# Altium schematic symbol library LABLIB.SchLib: 155 symbols (part 1 of 2)
Pins are listed as number, name and electrical type; pins without a type are passive.

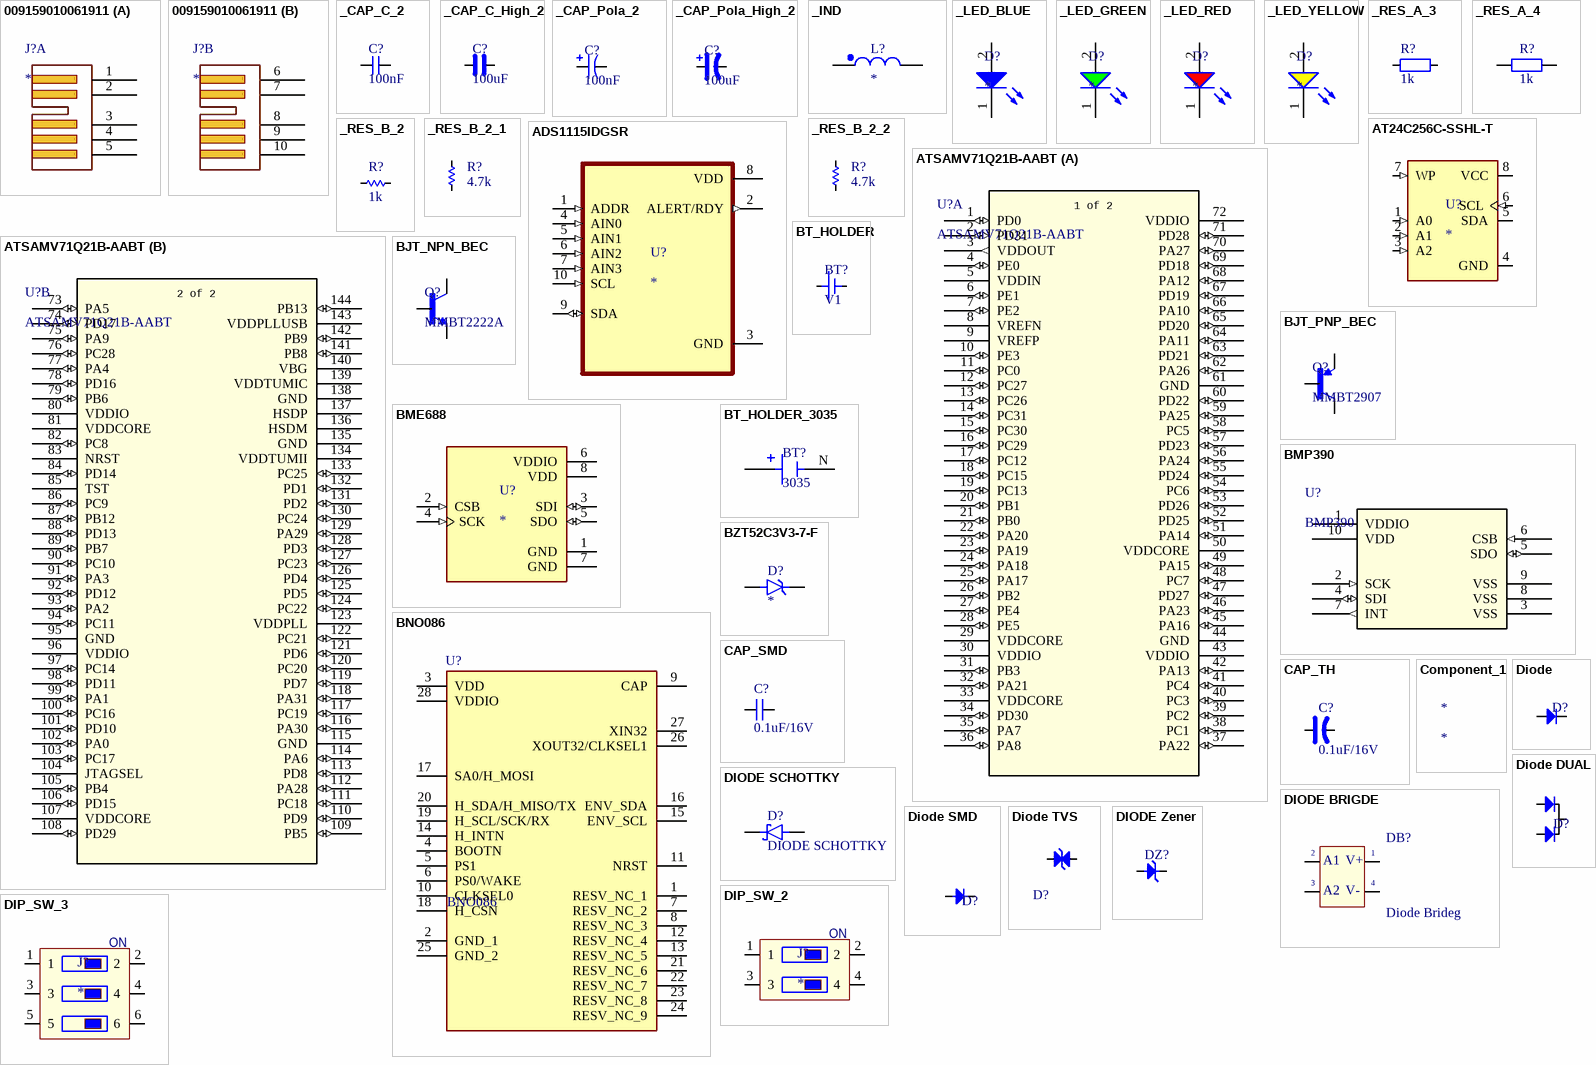
[diagram p0: symbols 009159010061911 to DIP_SW_3]

## 009159010061911
designator J?
pads for STLink V3 minie
footprint 009159010061911
part A pins: 1, 2, 3, 4, 5
part B pins: 6, 7, 8, 9, 10

## _CAP_C_2
designator C?, comment 100nF
CAP
footprint CAP_C_1005X60
footprint CAP_C_1608X80 (Chip Capacitor, 2-Leads, Body 1.60x0.80mm, IPC Medium Density)
footprint CAP_C_2012X110 (Chip Capacitor, 2-Leads, Body 2.00x1.25mm, IPC High Density)
footprint CAP_C_3216X140 (Chip Capacitor, 2-Leads, Body 3.20x1.60mm, IPC High Density)
footprint CAP_C_3225X80 (Chip Capacitor, 2-Leads, Body 3.20x2.50mm, IPC Medium Density)
pins: 1, 2

## _CAP_C_High_2
designator C?, comment 100uF
CAP High Value
footprint CAP_C_1005X60
footprint CAP_C_1608X80 (Chip Capacitor, 2-Leads, Body 1.60x0.80mm, IPC Medium Density)
footprint CAP_C_2012X110 (Chip Capacitor, 2-Leads, Body 2.00x1.25mm, IPC High Density)
footprint CAP_C_3216X140 (Chip Capacitor, 2-Leads, Body 3.20x1.60mm, IPC High Density)
footprint CAP_C_3225X80 (Chip Capacitor, 2-Leads, Body 3.20x2.50mm, IPC Medium Density)
pins: 1, 2

## _CAP_Pola_2
designator C?, comment 100nF
CAP Polarization
footprint CAP_MP_1608X90 (Molded Capacitor, 2-Leads, Body 1.60x0.85mm, IPC Medium Density)
footprint CAP_MP_2012X170 (Molded Capacitor, 2-Leads, Body 2.05x1.40mm, IPC Medium Density)
pins: 1, 2

## _CAP_Pola_High_2
designator C?, comment 100uF
CAP Polarization High Value
footprint CAP_MP_3216X180 (Molded Capacitor, 2-Leads, Body 3.20x1.65mm, IPC Medium Density)
footprint CAP_MP_1608X90 (Molded Capacitor, 2-Leads, Body 1.60x0.85mm, IPC Medium Density)
footprint CAP_MP_2012X170 (Molded Capacitor, 2-Leads, Body 2.05x1.40mm, IPC Medium Density)
footprint CAP_MP_3528X210 (Molded Capacitor, 2-Leads, Body 3.50x2.85mm, IPC Medium Density)
pins: 1, 2

## _IND
designator L?
footprint IND730660x480 (Precision Wire Wound Inductor, 2-Leads, Body 7.30x6.60mm, IPC Medium Density)
footprint IND_C_2012X65 (Chip Inductor, 2-Leads, Body 2.00x1.25mm, IPC High Density)
pins: 1, 2

## _LED_BLUE
designator D?
footprint LED_0603
pins: 1 K, 2 A

## _LED_GREEN
designator D?
footprint LED_0603
pins: 1 K, 2 A

## _LED_RED
designator D?
footprint LED_0603
pins: 1 K, 2 A

## _LED_YELLOW
designator D?
footprint LED_0603
pins: 1 K, 2 A

## _RES_A_3
designator R?, comment 1k
RES
footprint RES_C_1608X60 (Chip Resistor, 2-Leads, Body 1.63x0.83mm, IPC High Density)
footprint RES_C_1005X40
footprint RES_C_2012X65 (Chip Resistor, 2-Leads, Body 2.00x1.25mm, IPC High Density)
footprint RES_C_3216X70 (Chip Resistor, 2-Leads, Body 3.20x1.60mm, IPC Medium Density)
pins: 1, 2

## _RES_A_4
designator R?, comment 1k
RES
footprint RES_C_1608X60 (Chip Resistor, 2-Leads, Body 1.63x0.83mm, IPC High Density)
footprint RES_C_1005X40
footprint RES_C_2012X65 (Chip Resistor, 2-Leads, Body 2.00x1.25mm, IPC High Density)
footprint RES_C_3216X70 (Chip Resistor, 2-Leads, Body 3.20x1.60mm, IPC Medium Density)
pins: 1, 2

## _RES_B_2
designator R?, comment 1k
RES
footprint RES_C_1005X40
footprint RES_C_1608X60 (Chip Resistor, 2-Leads, Body 1.63x0.83mm, IPC High Density)
footprint RES_C_2012X65 (Chip Resistor, 2-Leads, Body 2.00x1.25mm, IPC High Density)
footprint RES_C_3216X70 (Chip Resistor, 2-Leads, Body 3.20x1.60mm, IPC Medium Density)
pins: 1, 2

## _RES_B_2_1
designator R?, comment 4.7k
RES
footprint RES_C_1005X40
footprint RES_C_1608X60 (Chip Resistor, 2-Leads, Body 1.63x0.83mm, IPC High Density)
footprint RES_C_2012X65 (Chip Resistor, 2-Leads, Body 2.00x1.25mm, IPC High Density)
footprint RES_C_3216X70 (Chip Resistor, 2-Leads, Body 3.20x1.60mm, IPC Medium Density)
pins: 1, 2

## _RES_B_2_2
designator R?, comment 4.7k
RES
footprint RES_C_1005X40
footprint RES_C_1608X60 (Chip Resistor, 2-Leads, Body 1.63x0.83mm, IPC High Density)
footprint RES_C_2012X65 (Chip Resistor, 2-Leads, Body 2.00x1.25mm, IPC High Density)
footprint RES_C_3216X70 (Chip Resistor, 2-Leads, Body 3.20x1.60mm, IPC Medium Density)
footprint RES_C_6331X65_N
pins: 1, 2

## ADS1115IDGSR
designator U?
16-bit, 860-SPS, 4-channel, delta-sigma ADC with PGA, oscillator, VREF, comparator and I2C
footprint SOP50P490X110-10N
pins: 1 ADDR (in), 2 ALERT/RDY (out), 3 GND (power), 4 AIN0 (in), 5 AIN1 (in), 6 AIN2 (in), 7 AIN3 (in), 8 VDD (power), 9 SDA (io), 10 SCL (in)

## AT24C256C-SSHL-T
designator U?
AT24C256C Series 256 Kb (32 K x 8) 1.7 V I2C-Compatible Serial EEPROM - SOIC-8
footprint SOIC127P600X175-8N
pins: 1 A0 (in), 2 A1 (in), 3 A2 (in), 4 GND (power), 5 SDA (io), 6 SCL (in), 7 WP (in), 8 VCC (power)

## ATSAMV71Q21B-AABT
designator U?
Description; Manufacturer_Name: Microchip; Copyright: Copyright (C) 2025 Ultra Librarian. All rights reserved.; Manufacturer_Part_Number: ATSAMV71Q21B-AABT; RefDes: RefDes; Type: Type
footprint LQFP144_20x20MC_MCH
part A pins: 1 PD0 (io), 2 PD31 (io), 3 VDDOUT (out), 4 PE0 (io), 5 VDDIN (power), 6 PE1 (io), 7 PE2 (io), 8 VREFN (power), 9 VREFP (power), 10 PE3 (io), 11 PC0 (io), 12 PC27 (io), 13 PC26 (io), 14 PC31 (io), 15 PC30 (io), 16 PC29 (io), 17 PC12 (io), 18 PC15 (io), 19 PC13 (io), 20 PB1 (io), 21 PB0 (io), 22 PA20 (io), 23 PA19 (io), 24 PA18 (io), 25 PA17 (io), 26 PB2 (io), 27 PE4 (io), 28 PE5 (io), 29 VDDCORE (power), 30 VDDIO (power), 31 PB3 (io), 32 PA21 (io), 33 VDDCORE (power), 34 PD30 (io), 35 PA7 (io), 36 PA8 (io), 37 PA22 (io), 38 PC1 (io), 39 PC2 (io), 40 PC3 (io), 41 PC4 (io), 42 PA13 (io), 43 VDDIO (power), 44 GND (power), 45 PA16 (io), 46 PA23 (io), 47 PD27 (io), 48 PC7 (io), 49 PA15 (io), 50 VDDCORE (power), 51 PA14 (io), 52 PD25 (io), 53 PD26 (io), 54 PC6 (io), 55 PD24 (io), 56 PA24 (io), 57 PD23 (io), 58 PC5 (io), 59 PA25 (io), 60 PD22 (io), 61 GND (power), 62 PA26 (io), 63 PD21 (io), 64 PA11 (io), 65 PD20 (io), 66 PA10 (io), 67 PD19 (io), 68 PA12 (io), 69 PD18 (io), 70 PA27 (io), 71 PD28 (io), 72 VDDIO (power)
part B pins: 73 PA5 (io), 74 PD17 (io), 75 PA9 (io), 76 PC28 (io), 77 PA4 (io), 78 PD16 (io), 79 PB6 (io), 80 VDDIO (power), 81 VDDCORE (power), 82 PC8 (io), 83 NRST, 84 PD14 (io), 85 TST, 86 PC9 (io), 87 PB12 (io), 88 PD13 (io), 89 PB7 (io), 90 PC10 (io), 91 PA3 (io), 92 PD12 (io), 93 PA2 (io), 94 PC11 (io), 95 GND (power), 96 VDDIO (power), 97 PC14 (io), 98 PD11 (io), 99 PA1 (io), 100 PC16 (io), 101 PD10 (io), 102 PA0 (io), 103 PC17 (io), 104 JTAGSEL, 105 PB4 (io), 106 PD15 (io), 107 VDDCORE (power), 108 PD29 (io), 109 PB5 (io), 110 PD9 (io), 111 PC18 (io), 112 PA28 (io), 113 PD8 (io), 114 PA6 (io), 115 GND (power), 116 PA30 (io), 117 PC19 (io), 118 PA31 (io), 119 PD7 (io), 120 PC20 (io), 121 PD6 (io), 122 PC21 (io), 123 VDDPLL (power), 124 PC22 (io), 125 PD5 (io), 126 PD4 (io), 127 PC23 (io), 128 PD3 (io), 129 PA29 (io), 130 PC24 (io), 131 PD2 (io), 132 PD1 (io), 133 PC25 (io), 134 VDDTUMII (power), 135 GND (power), 136 HSDM, 137 HSDP, 138 GND (power), 139 VDDTUMIC (power), 140 VBG, 141 PB8 (io), 142 PB9 (io), 143 VDDPLLUSB (power), 144 PB13 (io)
part A text: 1 of 2
part B text: 2 of 2

## BJT_NPN_BEC
designator Q?, comment MMBT2222A
MF: Diotec Semiconductor; SnapEDA_Link: https://www.snapeda.com/parts/MMBT2222A/Diotec/view-part/?ref=snap; Package: SOT-23 Diotec; Value: *; MP: MMBT2222A; Check_prices: https://www.snapeda.com/parts/MMBT2222A/Diotec/view-part/?ref=eda
footprint SOT95P240X120-3N
pins: 1 B, 2 E, 3 C

## BJT_PNP_BEC
designator Q?, comment MMBT2907
MF: Diotec Semiconductor; MP: MMBT2222A; SnapEDA_Link: https://www.snapeda.com/parts/MMBT2222A/Diotec/view-part/?ref=snap; Package: SOT-23 Diotec; Value: *; Check_prices: https://www.snapeda.com/parts/MMBT2222A/Diotec/view-part/?ref=eda
footprint SOT95P240X120-3N
pins: 1 B, 2 E, 3 C

## BME688
designator U?
Gas sensor measuring relative humidity, barometric pressure, ambient temperature and gas (VOC); MP: BME688; Package: None; Price: None; Availability: Unavailable; Value: *
footprint IC_BME688
pins: 1 GND (power), 2 CSB (in), 3 SDI (io), 4 SCK (in), 5 SDO (io), 6 VDDIO (power), 7 GND (power), 8 VDD (power)

## BMP390
designator U?
Description; Manufacturer_Name: Bosch Sensortec; Copyright: Copyright (C) 2025 Ultra Librarian. All rights reserved.; Manufacturer_Part_Number: BMP390; RefDes: RefDes; Type: Type
footprint 10LGA_2X2X0p75_BOS
pins: 1 VDDIO (power), 2 SCK (in), 3 VSS (power), 4 SDI (io), 5 SDO (io), 6 CSB (in), 7 INT (out), 8 VSS (power), 9 VSS (power), 10 VDD (power)

## BNO086
designator U?
Accelerometer, Gyroscope, Magnetometer, Temperature, 9 Axis Sensor IC, SPI Output; Manufacturer_Name: CEVA; Geometry.Height: 1.18mm; Mouser Part Number: 526-BNO086; Mouser Price/Stock: https://www.mouser.co.uk/ProductDetail/CEVA/BNO086?qs=ulEaXIWI0c%2FqTo1scjodAw%3D%3D; Manufacturer_Part_Number: BNO086; Datasheet Link: *
footprint BNO086
pins: 1 RESV_NC_1, 2 GND_1, 3 VDD, 4 BOOTN, 5 PS1, 6 PS0/WAKE, 7 RESV_NC_2, 8 RESV_NC_3, 9 CAP, 10 CLKSEL0, 11 NRST, 12 RESV_NC_4, 13 RESV_NC_5, 14 H_INTN, 15 ENV_SCL, 16 ENV_SDA, 17 SA0/H_MOSI, 18 H_CSN, 19 H_SCL/SCK/RX, 20 H_SDA/H_MISO/TX, 21 RESV_NC_6, 22 RESV_NC_7, 23 RESV_NC_8, 24 RESV_NC_9, 25 GND_2, 26 XOUT32/CLKSEL1, 27 XIN32, 28 VDDIO

## BT_HOLDER
designator BT?, comment V1
MF: Keystone Electronics; MP: 3035; SnapEDA_Link: https://www.snapeda.com/parts/3035/Keystone/view-part/?ref=snap; Package: None; Value: *; Check_prices: https://www.snapeda.com/parts/3035/Keystone/view-part/?ref=eda
footprint BAT_3035
pins: N NEG, P2 POS

## BT_HOLDER_3035
designator BT?, comment 3035
Battery Clip; THM; 20mm Cell; PhosBronze/Nickel | Keystone Electronics 3035; SnapEDA_Link: https://www.snapeda.com/parts/3035/Keystone/view-part/?ref=snap; Package: None; Value: *; MF: Keystone Electronics; MP: 3035; Check_prices: https://www.snapeda.com/parts/3035/Keystone/view-part/?ref=eda
footprint BAT_3035
pins: N NEG, P1 POS, P2 POS

## BZT52C3V3-7-F
designator D?
Diode Zener 3.3V 6% 500mW 2Pin SOD123 | Diodes Inc BZT52C3V3-7-F
footprint SOD3715X135N
pins: A, K

## CAP_SMD
designator C?, comment 0.1uF/16V
CAP_Chip; Value: 33pF
pins: 1, 2

## CAP_TH
designator C?, comment 0.1uF/16V
CAP_Polarization; Published: 8-Jun-2000; LatestRevisionDate: 17-Jul-2002; LatestRevisionNote: Re-released for DXP Platform.; PackageReference: POLAR0.8; Publisher: Altium Limited
pins: 1, 2
1 alternate drawing of the same symbol

## Component_1
designator *

## Diode
designator D?  (value not drawn)
Default Diode; Code - JEDEC: DO-214-AB; Value: 1N5007; Published: 8-Jun-2000; Revision: July-2002: Re-released for DXP Platform.; Publisher: Altium Limited
footprint DIO-1A
footprint DIO-0.5A-SMALL (Diode muoi, W 80mil, L 300mil)
footprint DIO-1A-SMALL (Diode 1A, W 100mil, L 350mil)
footprint DIO-2A (Diode 2A, W 150mil, L 450mil)
footprint DIO-5A (Diode 5A, W 200mil, L 550mil)
footprint DIO-5AN (Diode 5A, W 200mil, L 250mil)
footprint DIO-1AN (Diode 1A, W 100mil, L 150mil)
footprint DIO-3A (Diode 3A)
footprint DIO-2A - LONG (Diode 2A, W 150mil, L 450mil)
footprint DIO-2AN (Diode 2A, W 150mil, L 450mil)
footprint DIO-5A - LONG (Diode 5A, W 200mil, L 550mil)
footprint DIO-7A-SMALL (Diode 7A)
pins: 1 A, 2 K

## DIODE BRIGDE
designator DB?, comment Diode Brideg
Convert AC to DC voltage, 4 pin; Value: Cau 1A
footprint DIO-Bri 5A (Brigde 5A)
footprint DIO-Bri 1A
footprint DIO-Bri 2A (CAU 2A DET)
footprint DIO-BRI 35A (35A/1000V)
footprint DIO-Bri 10A (Brigde 10A)
footprint DIO-Bri 6A (Brigde 6A)
footprint DIO-Bri 8A (Brigde 8A)
footprint MB6S
pins: 1 +V OUT, 2 AC1, 3 AC2, 4 -V OUT
text: A1; V+; A2; V-

## Diode DUAL
designator D?  (value not drawn)
Default Diode; Code - JEDEC: DO-214-AB; Value: 1N5007; Published: 8-Jun-2000; Revision: July-2002: Re-released for DXP Platform.; Publisher: Altium Limited
footprint TO252-123
footprint TO220H2 (TO-220 - 1-2-3)
footprint TO220H1 (TO-220 - 1-2-3)
footprint TO220H3 (TO-220 1-2-3)
footprint TO247
footprint TO220-123 (TO-220 - 1-2-3)
footprint TO247+LageHeatsink
pins: 1, 2, 3

## DIODE SCHOTTKY
designator D?
footprint DO-214AC_SMA (Molded Diode, 2-Leads, Body 5.20x2.61mm, IPC Medium Density)
pins: 1 K, 2 A

## Diode SMD
designator D?
Default Diode; Code - JEDEC: DO-214-AB; Value: 1N5007; Published: 8-Jun-2000; Revision: July-2002: Re-released for DXP Platform.; Publisher: Altium Limited
footprint DIO-SMD-106
footprint DIO-SMD-123
footprint DIO-SMD-A
footprint DIO-SMD-B (Magnetic-Core Inductor with Winding Polarity Marking; 2 Leads)
footprint DIO-SMD-216AA (DO216AA ST-MITE)
footprint DIO-SMD-222AA (DO216AA ST-MITE)
footprint DIO-SMD-C
footprint DIO-SMD-323
pins: 1 K, 2 A

## Diode TVS
designator D?
TVS Diode; Code - JEDEC: DO-214-AB; Value: 1N5007; Published: 8-Jun-2000; Revision: July-2002: Re-released for DXP Platform.; Publisher: Altium Limited
footprint DO-214AC_SMA (Molded Diode, 2-Leads, Body 5.20x2.61mm, IPC Medium Density)
footprint DO-214AA_SMB (Molded Diode, 2-Leads, Body 5.40x3.63mm, IPC Medium Density)
pins: 1 A, 2 K

## DIODE Zener
designator DZ?
Zenner
footprint DIO-0.5A-SMALL (Diode muoi, W 80mil, L 300mil)
footprint DIO-1A
footprint DIO-1A-SMALL (Diode 1A, W 100mil, L 350mil)
footprint DIO-1AN (Diode 1A, W 100mil, L 150mil)
footprint DIO-2A (Diode 2A, W 150mil, L 450mil)
footprint DIO-2A - LONG (Diode 2A, W 150mil, L 450mil)
footprint DIO-1A-ZEN (Diode 1A, W 100mil, L 350mil)
footprint DIO-2A-ZEN
pins: 1 K, 2 A

## DIP_SW_2
designator J?
pins: 1, 2, 3, 4
text: ON

## DIP_SW_3
designator J?
pins: 1, 2, 3, 4, 5, 6
text: ON

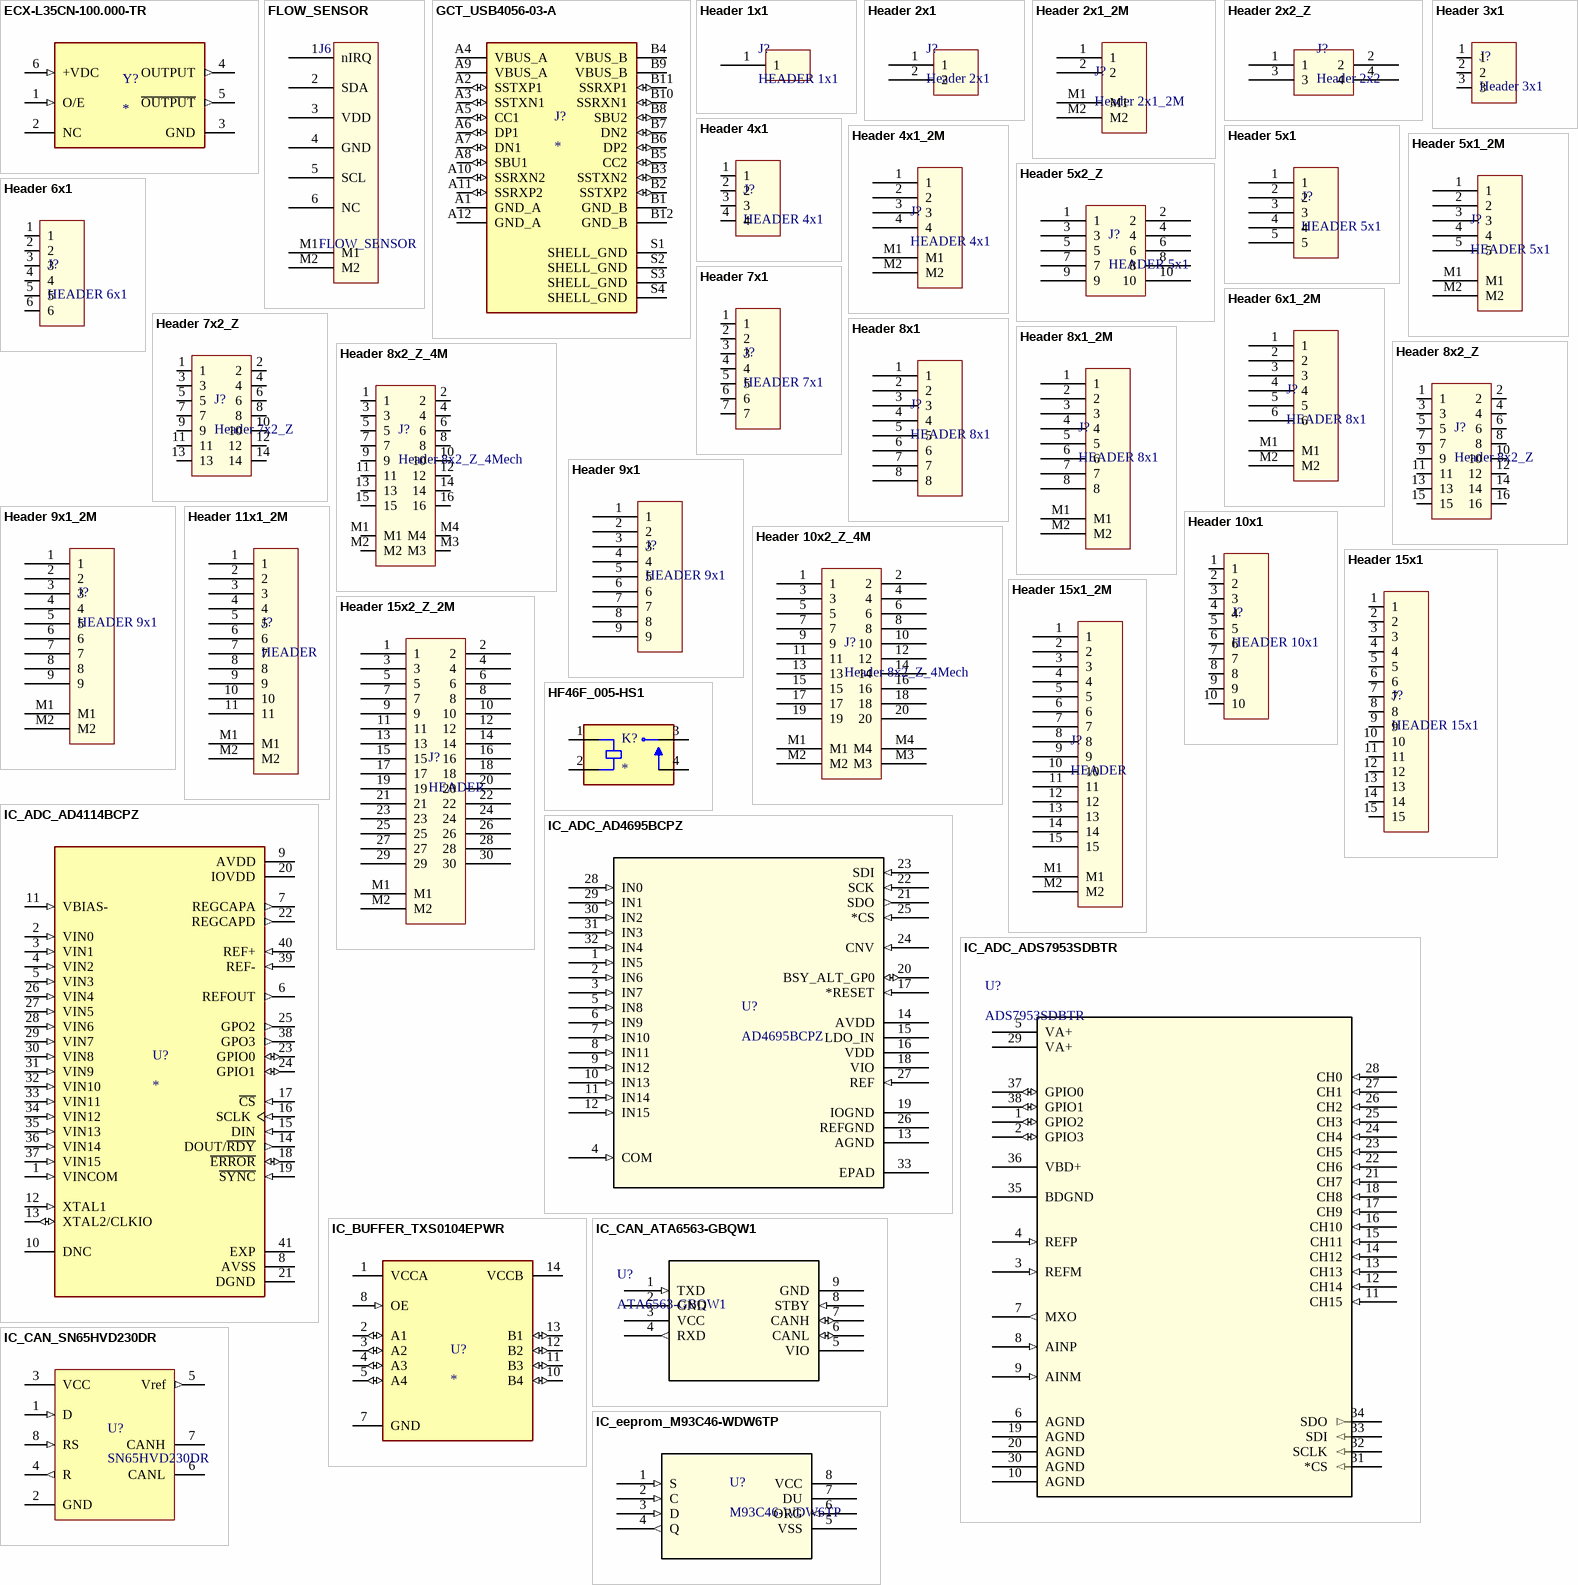
[diagram p1: symbols ECX-L35CN-100.000-TR to IC_eeprom_M93C46-WDW6TP]

## ECX-L35CN-100.000-TR
designator Y?
100 MHz XO (Standard) LVDS Oscillator 3.3V Enable/Disable 6-SMD, No Lead
footprint OSC_ECX-L35CN-100.000-TR
pins: 1 O/E (in), 2 NC, 3 GND (power), 4 OUTPUT (out), 5 ~{OUTPUT} (out), 6 +VDC (in)

## FLOW_SENSOR
designator J6
footprint MOLEX_0532610671
pins: 1 nIRQ, 2 SDA, 3 VDD, 4 GND, 5 SCL, 6 NC, M1, M2

## GCT_USB4056-03-A
designator J?
USB C 3.2 REC, HORZ, HYBRID PCB; MF: {'manufacturer': u'Global Connector Technology'}; MP: USB4056-03-A_REVA2; Package: None; Price: None; Value: *; Availability: Unavailable
footprint GCT_USB4056-03-A_REVA2
pins: A1 GND_A (power), A2 SSTXP1 (io), A3 SSTXN1 (io), A4 VBUS_A (power), A5 CC1 (io), A6 DP1 (io), A7 DN1 (io), A8 SBU1 (io), A9 VBUS_A (power), A10 SSRXN2 (io), A11 SSRXP2 (io), A12 GND_A (power), B1 GND_B (power), B2 SSTXP2 (io), B3 SSTXN2 (io), B4 VBUS_B (power), B5 CC2 (io), B6 DP2 (io), B7 DN2 (io), B8 SBU2 (io), B9 VBUS_B (power), B10 SSRXN1 (io), B11 SSRXP1 (io), B12 GND_B (power), S1 SHELL_GND (power), S2 SHELL_GND (power), S3 SHELL_GND (power), S4 SHELL_GND (power)

## Header 1x1
designator J?, comment HEADER 1x1
pins: 1

## Header 2x1
designator J?
footprint JST_B2B-XH-A
footprint JP2-D1T
pins: 1, 2

## Header 2x1_2M
designator J?
footprint JST_B2B-XH-A
footprint JP2-D1T
pins: 1, 2, M1, M2

## Header 2x2_Z
designator J?, comment Header 2x2
pins: 1, 2, 3, 4

## Header 3x1
designator J?
pins: 1, 2, 3

## Header 4x1
designator J?, comment HEADER 4x1
pins: 1, 2, 3, 4

## Header 4x1_2M
designator J?, comment HEADER 4x1
pins: 1, 2, 3, 4, M1, M2

## Header 5x1
designator J?, comment HEADER 5x1
pins: 1, 2, 3, 4, 5

## Header 5x1_2M
designator J?, comment HEADER 5x1
pins: 1, 2, 3, 4, 5, M1, M2

## Header 5x2_Z
designator J?, comment HEADER 5x1
pins: 1, 2, 3, 4, 5, 6, 7, 8, 9, 10

## Header 6x1
designator J?, comment HEADER 6x1
pins: 1, 2, 3, 4, 5, 6

## Header 6x1_2M
designator J?, comment HEADER 8x1
pins: 1, 2, 3, 4, 5, 6, M1, M2

## Header 7x1
designator J?, comment HEADER 7x1
pins: 1, 2, 3, 4, 5, 6, 7

## Header 7x2_Z
designator J?
pins: 1, 2, 3, 4, 5, 6, 7, 8, 9, 10, 11, 12, 13, 14

## Header 8x1
designator J?, comment HEADER 8x1
pins: 1, 2, 3, 4, 5, 6, 7, 8

## Header 8x1_2M
designator J?, comment HEADER 8x1
pins: 1, 2, 3, 4, 5, 6, 7, 8, M1, M2

## Header 8x2_Z
designator J?
Header 8x2 Zigzag pin
pins: 1, 2, 3, 4, 5, 6, 7, 8, 9, 10, 11, 12, 13, 14, 15, 16

## Header 8x2_Z_4M
designator J?, comment Header 8x2_Z_4Mech
Header 8x2 Zigzag pin_4Mech
pins: 1, 2, 3, 4, 5, 6, 7, 8, 9, 10, 11, 12, 13, 14, 15, 16, M1, M2, M3, M4

## Header 9x1
designator J?, comment HEADER 9x1
footprint MOLEX_0533980971
pins: 1, 2, 3, 4, 5, 6, 7, 8, 9

## Header 9x1_2M
designator J?, comment HEADER 9x1
pins: 1, 2, 3, 4, 5, 6, 7, 8, 9, M1, M2

## Header 10x1
designator J?, comment HEADER 10x1
pins: 1, 2, 3, 4, 5, 6, 7, 8, 9, 10

## Header 10x2_Z_4M
designator J?, comment Header 8x2_Z_4Mech
Header 8x2 Zigzag pin_4Mech
pins: 1, 2, 3, 4, 5, 6, 7, 8, 9, 10, 11, 12, 13, 14, 15, 16, 17, 18, 19, 20, M1, M2, M3, M4

## Header 11x1_2M
designator J?, comment HEADER
pins: 1, 2, 3, 4, 5, 6, 7, 8, 9, 10, 11, M1, M2

## Header 15x1
designator J?, comment HEADER 15x1
pins: 1, 2, 3, 4, 5, 6, 7, 8, 9, 10, 11, 12, 13, 14, 15

## Header 15x1_2M
designator J?, comment HEADER
pins: 1, 2, 3, 4, 5, 6, 7, 8, 9, 10, 11, 12, 13, 14, 15, M1, M2

## Header 15x2_Z_2M
designator J?, comment HEADER
pins: 1, 2, 3, 4, 5, 6, 7, 8, 9, 10, 11, 12, 13, 14, 15, 16, 17, 18, 19, 20, 21, 22, 23, 24, 25, 26, 27, 28, 29, 30, M1, M2

## HF46F_005-HS1
designator K?
Relay: electromagnetic; SPST-NO; Ucoil: 5VDC; 5A/250VAC; 5A/30VDC
footprint RELAY_HF46F_005-HS1
pins: 1 COIL1, 2 COIL2, 3 COM, 4 NO

## IC_ADC_AD4114BCPZ
designator U?
Single Supply, Multichannel, 31.25 kSPS, 24-Bit, Sigma-Delta ADC with Â±10 V Inputs; MP: AD4114BCPZ; MF: Analog Devices; Value: *; SnapEDA_Link: https://www.snapeda.com/parts/AD4114BCPZ/Analog+Devices/view-part/?ref=snap; Purchase-URL: https://pricing.snapeda.com/search/part/AD4114BCPZ/?ref=eda; Check_prices: https://www.snapeda.com/parts/AD4114BCPZ/Analog+Devices/view-part/?ref=eda; Availability: In Stock; Price: None; Package: VFQFN-40 Analog Devices
footprint QFN50P600X600X100-41N
pins: 1 VINCOM (in), 2 VIN0 (in), 3 VIN1 (in), 4 VIN2 (in), 5 VIN3 (in), 6 REFOUT (out), 7 REGCAPA (out), 8 AVSS (power), 9 AVDD (power), 10 DNC, 11 VBIAS- (in), 12 XTAL1 (in), 13 XTAL2/CLKIO (io), 14 DOUT/~{RDY} (out), 15 DIN (in), 16 SCLK (in), 17 ~{CS} (in), 18 ~{ERROR} (io), 19 ~{SYNC} (in), 20 IOVDD (power), 21 DGND (power), 22 REGCAPD (out), 23 GPIO0 (io), 24 GPIO1 (io), 25 GPO2 (out), 26 VIN4 (in), 27 VIN5 (in), 28 VIN6 (in), 29 VIN7 (in), 30 VIN8 (in), 31 VIN9 (in), 32 VIN10 (in), 33 VIN11 (in), 34 VIN12 (in), 35 VIN13 (in), 36 VIN14 (in), 37 VIN15 (in), 38 GPO3 (out), 39 REF- (in), 40 REF+ (in), 41 EXP (power)

## IC_ADC_AD4695BCPZ
designator U?, comment AD4695BCPZ
16-Bit, 16-Channel, 500 kSPS, Easy Drive Multiplexed SAR ADC; Manufacturer_Name: Analog Devices Inc; Copyright: Copyright (C) 2025 Ultra Librarian. All rights reserved.; Manufacturer_Part_Number: AD4695BCPZ; Datasheet: https://www.analog.com/media/en/technical-documentation/data-sheets/ad4695_4696.pdf; RefDes: RefDes; Type: Type
footprint CP-32-7_ADI
pins: 1 IN5 (in), 2 IN6 (in), 3 IN7 (in), 4 COM (in), 5 IN8 (in), 6 IN9 (in), 7 IN10 (in), 8 IN11 (in), 9 IN12 (in), 10 IN13 (in), 11 IN14 (in), 12 IN15 (in), 13 AGND (power), 14 AVDD (power), 15 LDO_IN (power), 16 VDD (power), 17 *RESET (in), 18 VIO (power), 19 IOGND (power), 20 BSY_ALT_GP0 (io), 21 SDO (out), 22 SCK (in), 23 SDI (in), 24 CNV (in), 25 *CS (in), 26 REFGND (power), 27 REF (in), 28 IN0 (in), 29 IN1 (in), 30 IN2 (in), 31 IN3 (in), 32 IN4 (in), 33 EPAD

## IC_ADC_ADS7953SDBTR
designator U?, comment ADS7953SDBTR
12-Bit, 1-MSPS, 16-Channel, Single-Ended, microPower SAR ADC with Serial I/F 38-TSSOP -40 to 125; Manufacturer_Name: Texas Instruments; Copyright: Copyright (C) 2025 Ultra Librarian. All rights reserved.; Manufacturer_Part_Number: ADS7953SDBTR; Datasheet: https://www.ti.com/lit/gpn/ads7953; RefDes: RefDes; Type: Type
footprint DBT38
pins: 1 GPIO2 (io), 2 GPIO3 (io), 3 REFM (in), 4 REFP (in), 5 VA+ (power), 6 AGND (power), 7 MXO (out), 8 AINP (in), 9 AINM (in), 10 AGND (power), 11 CH15 (in), 12 CH14 (in), 13 CH13 (in), 14 CH12 (in), 15 CH11 (in), 16 CH10 (in), 17 CH9 (in), 18 CH8 (in), 19 AGND (power), 20 AGND (power), 21 CH7 (in), 22 CH6 (in), 23 CH5 (in), 24 CH4 (in), 25 CH3 (in), 26 CH2 (in), 27 CH1 (in), 28 CH0 (in), 29 VA+ (power), 30 AGND (power), 31 *CS (in), 32 SCLK (in), 33 SDI (in), 34 SDO (out), 35 BDGND (power), 36 VBD+ (power), 37 GPIO0 (io), 38 GPIO1 (io)

## IC_BUFFER_TXS0104EPWR
designator U?
Four-bit bidirectional voltage-level shifter for open-drain and push-pull applications; MF: Texas Instruments; MP: TXS0104EPWR; SnapEDA_Link: https://www.snapeda.com/parts/TXS0104EPWR/Texas+Instruments/view-part/?ref=snap; Package: TSSOP-14 Texas Instruments; Value: *; Check_prices: https://www.snapeda.com/parts/TXS0104EPWR/Texas+Instruments/view-part/?ref=eda
footprint SOP65P640X120-14N
pins: 1 VCCA (power), 2 A1 (io), 3 A2 (io), 4 A3 (io), 5 A4 (io), 7 GND (power), 8 OE (in), 10 B4 (io), 11 B3 (io), 12 B2 (io), 13 B1 (io), 14 VCCB (power)

## IC_CAN_ATA6563-GBQW1
designator U?, comment ATA6563-GBQW1
No Description Available; Manufacturer_Name: Microchip; Copyright: Copyright (C) 2025 Ultra Librarian. All rights reserved.; Manufacturer_Part_Number: ATA6563-GBQW1; RefDes: RefDes; Type: Type
footprint VDFN8_3X3_GB-Q8B_MCH
pins: 1 TXD (in), 2 GND (power), 3 VCC (power), 4 RXD (out), 5 VIO (power), 6 CANL (io), 7 CANH (io), 8 STBY (in), 9 GND (power)

## IC_CAN_SN65HVD230DR
designator U?, comment SN65HVD230DR
IC TRANSCEIVER HALF 1/1 8SOIC
pins: 1 D (in), 2 GND, 3 VCC, 4 R (out), 5 Vref (out), 6 CANL, 7 CANH, 8 RS (in)

## IC_eeprom_M93C46-WDW6TP
designator U?, comment M93C46-WDW6TP
1 Kbit (8-bit or 16-bit wide) MICROWIRE serial access EEPROM; Manufacturer_Name: STMicroelectronics; Copyright: Copyright (C) 2025 Ultra Librarian. All rights reserved.; Manufacturer_Part_Number: M93C46-WDW6TP; Datasheet: https://www.st.com/resource/en/datasheet/m93c46-w.pdf; RefDes: RefDes; Type: Type
footprint TSSOP8_STM
footprint TSSOP8_STM
pins: 1 S (in), 2 C (in), 3 D (in), 4 Q (out), 5 VSS (power), 6 ORG (in), 7 DU, 8 VCC (power)

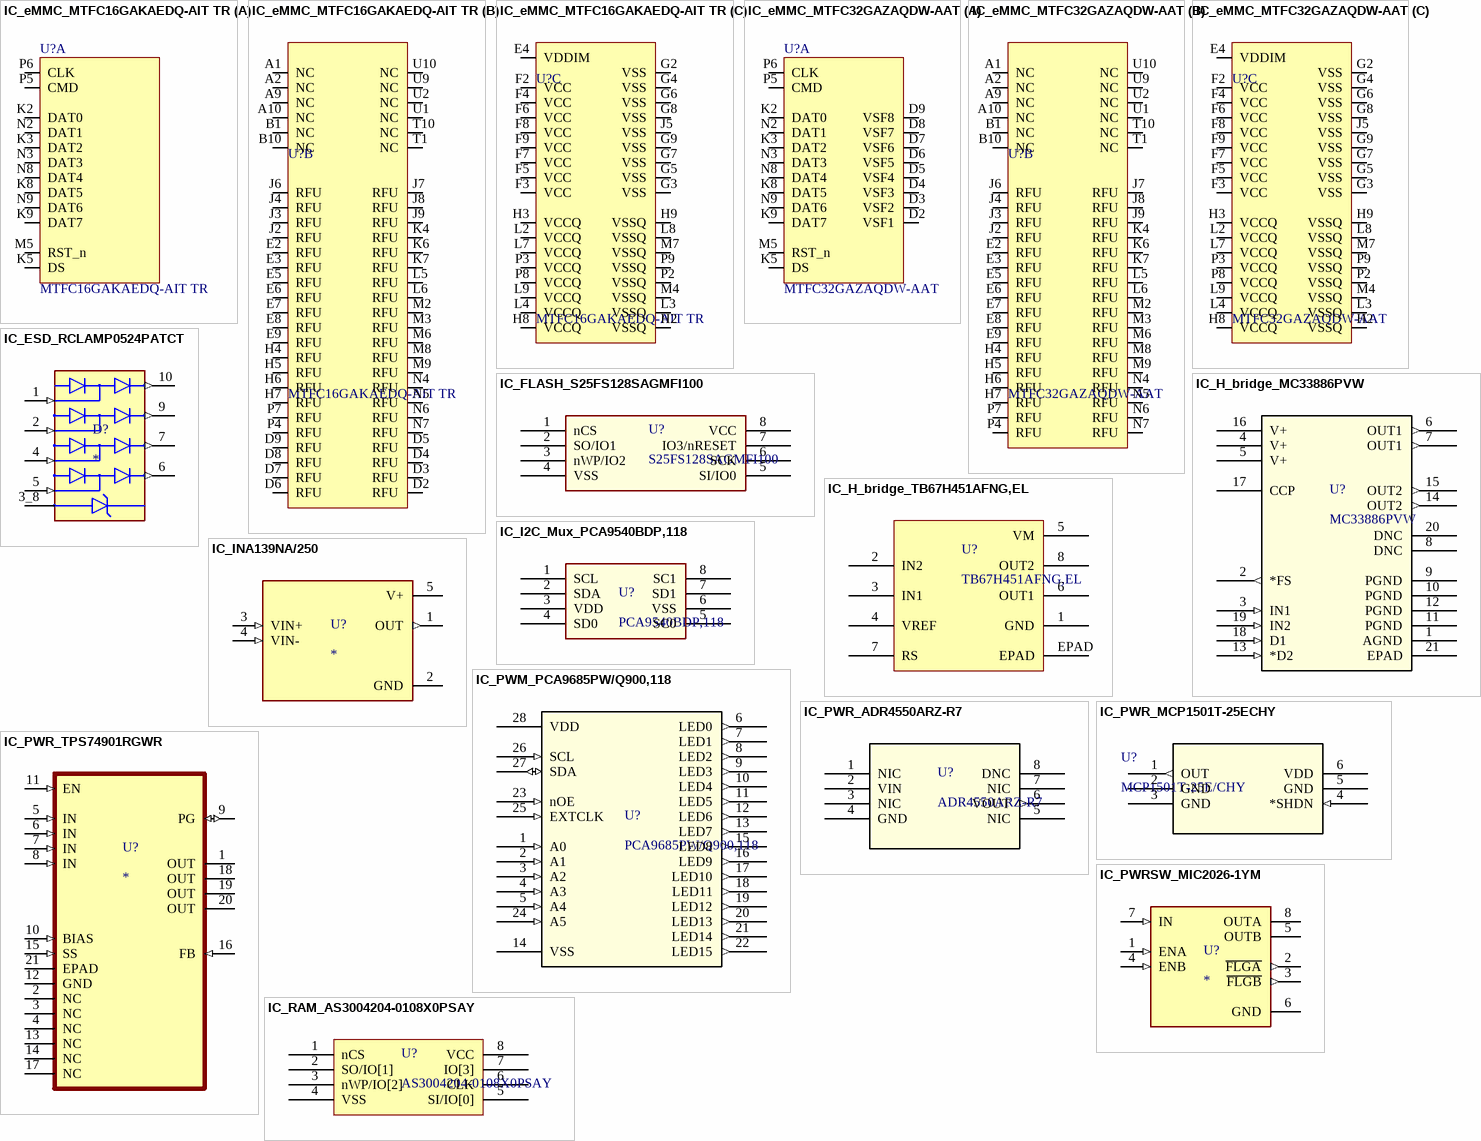
[diagram p2: symbols IC_eMMC_MTFC16GAKAEDQ-AIT TR to IC_RAM_AS3004204-0108X0PSAY]

## IC_eMMC_MTFC16GAKAEDQ-AIT TR
designator U?, comment MTFC16GAKAEDQ-AIT TR
footprint BGA_100_C_100P_10X17_1400X1800X150 (BGA, 100-Leads, Body 14.00x18.00mmx1.50mm, Pitch 1.00mm)
part A pins: K2 DAT0, K3 DAT2, K5 DS, K8 DAT5, K9 DAT7, M5 RST_n, N2 DAT1, N3 DAT3, N8 DAT4, N9 DAT6, P5 CMD, P6 CLK
part B pins: A1 NC, A2 NC, A9 NC, A10 NC, B1 NC, B10 NC, D2 RFU, D3 RFU, D4 RFU, D5 RFU, D6 RFU, D7 RFU, D8 RFU, D9 RFU, E2 RFU, E3 RFU, E5 RFU, E6 RFU, E7 RFU, E8 RFU, E9 RFU, H4 RFU, H5 RFU, H6 RFU, H7 RFU, J2 RFU, J3 RFU, J4 RFU, J6 RFU, J7 RFU, J8 RFU, J9 RFU, K4 RFU, K6 RFU, K7 RFU, L5 RFU, L6 RFU, M2 RFU, M3 RFU, M6 RFU, M8 RFU, M9 RFU, N4 RFU, N5 RFU, N6 RFU, N7 RFU, P4 RFU, P7 RFU, T1 NC, T10 NC, U1 NC, U2 NC, U9 NC, U10 NC
part C pins: E4 VDDIM, F2 VCC, F3 VCC, F4 VCC, F5 VCC, F6 VCC, F7 VCC, F8 VCC, F9 VCC, G2 VSS, G3 VSS, G4 VSS, G5 VSS, G6 VSS, G7 VSS, G8 VSS, G9 VSS, H2 VSSQ, H3 VCCQ, H8 VCCQ, H9 VSSQ, J5 VSS, L2 VCCQ, L3 VSSQ, L4 VCCQ, L7 VCCQ, L8 VSSQ, L9 VCCQ, M4 VSSQ, M7 VSSQ, P2 VSSQ, P3 VCCQ, P8 VCCQ, P9 VSSQ

## IC_eMMC_MTFC32GAZAQDW-AAT
designator U?, comment MTFC32GAZAQDW-AAT
footprint BGA_100_C_100P_10X17_1400X1800X150 (BGA, 100-Leads, Body 14.00x18.00mmx1.50mm, Pitch 1.00mm)
part A pins: D2 VSF1, D3 VSF2, D4 VSF3, D5 VSF4, D6 VSF5, D7 VSF6, D8 VSF7, D9 VSF8, K2 DAT0, K3 DAT2, K5 DS, K8 DAT5, K9 DAT7, M5 RST_n, N2 DAT1, N3 DAT3, N8 DAT4, N9 DAT6, P5 CMD, P6 CLK
part B pins: A1 NC, A2 NC, A9 NC, A10 NC, B1 NC, B10 NC, E2 RFU, E3 RFU, E5 RFU, E6 RFU, E7 RFU, E8 RFU, E9 RFU, H4 RFU, H5 RFU, H6 RFU, H7 RFU, J2 RFU, J3 RFU, J4 RFU, J6 RFU, J7 RFU, J8 RFU, J9 RFU, K4 RFU, K6 RFU, K7 RFU, L5 RFU, L6 RFU, M2 RFU, M3 RFU, M6 RFU, M8 RFU, M9 RFU, N4 RFU, N5 RFU, N6 RFU, N7 RFU, P4 RFU, P7 RFU, T1 NC, T10 NC, U1 NC, U2 NC, U9 NC, U10 NC
part C pins: E4 VDDIM, F2 VCC, F3 VCC, F4 VCC, F5 VCC, F6 VCC, F7 VCC, F8 VCC, F9 VCC, G2 VSS, G3 VSS, G4 VSS, G5 VSS, G6 VSS, G7 VSS, G8 VSS, G9 VSS, H2 VSSQ, H3 VCCQ, H8 VCCQ, H9 VSSQ, J5 VSS, L2 VCCQ, L3 VSSQ, L4 VCCQ, L7 VCCQ, L8 VSSQ, L9 VCCQ, M4 VSSQ, M7 VSSQ, P2 VSSQ, P3 VCCQ, P8 VCCQ, P9 VSSQ

## IC_ESD_RCLAMP0524PATCT
designator D?
15V Clamp 5A (8/20Âµs) Ipp Tvs Diode Surface Mount SLP2510P8; MF: Semtech Corporation; MP: RCLAMP0524PATCT; SnapEDA_Link: https://www.snapeda.com/parts/RCLAMP0524PATCT/Semtech+Corporation/view-part/?ref=snap; Package: UFDFN-10 Semtech; Value: *; Check_prices: https://www.snapeda.com/parts/RCLAMP0524PATCT/Semtech+Corporation/view-part/?ref=eda
footprint DIO_RCLAMP0524PATCT
pins: 1 IN1 (in), 2 IN2 (in), 3_8 GROUND (power), 4 IN4 (in), 5 IN5 (in), 6 OUT6 (out), 7 OUT7 (out), 9 OUT9 (out), 10 OUT10 (out)

## IC_FLASH_S25FS128SAGMFI100
designator U?, comment S25FS128SAGMFI100
IC FLASH 128MBIT SPI/QUAD 8SOIC
pins: 1 nCS, 2 SO/IO1, 3 nWP/IO2, 4 VSS, 5 SI/IO0, 6 SCK, 7 IO3/nRESET, 8 VCC

## IC_H_bridge_MC33886PVW
designator U?, comment MC33886PVW
Motor Driver CMOS Parallel 20-HSOP; Manufacturer_Name: NXP; Copyright: Copyright (C) 2025 Ultra Librarian. All rights reserved.; Manufacturer_Part_Number: MC33886PVW; RefDes: RefDes; Type: Type
footprint HSOP20_11P1X16_NXP
pins: 1 AGND (power), 2 *FS (out), 3 IN1 (in), 4 V+ (power), 5 V+ (power), 6 OUT1 (out), 7 OUT1 (out), 8 DNC, 9 PGND (power), 10 PGND (power), 11 PGND (power), 12 PGND (power), 13 *D2 (in), 14 OUT2 (out), 15 OUT2 (out), 16 V+ (power), 17 CCP, 18 D1 (in), 19 IN2 (in), 20 DNC, 21 EPAD

## IC_H_bridge_TB67H451AFNG,EL
designator U?, comment TB67H451AFNG,EL
BRUSHED MOTOR DRIVER IC, 50V, 3.
footprint SOIC127P602X173-8N_EPAD
pins: 1 GND, 2 IN2, 3 IN1, 4 VREF, 5 VM, 6 OUT1, 7 RS, 8 OUT2, EPAD

## IC_I2C_Mux_PCA9540BDP,118
designator U?, comment PCA9540BDP,118
IC INTERFACE SPECIALIZED
pins: 1 SCL, 2 SDA, 3 VDD, 4 SD0, 5 SC0, 6 VSS, 7 SD1, 8 SC1

## IC_INA139NA/250
designator U?
2.7 to 36V, 440kHz Variable gain current sense amplifier; MF: Texas Instruments; MP: INA139NA/250; SnapEDA_Link: https://www.snapeda.com/parts/INA139NA/250/Texas+Instruments/view-part/?ref=snap; Package: SOT-23-5 Texas Instruments; Value: *; Check_prices: https://www.snapeda.com/parts/INA139NA/250/Texas+Instruments/view-part/?ref=eda
footprint SOT95P280X145-5N
pins: 1 OUT (out), 2 GND (power), 3 VIN+ (in), 4 VIN- (in), 5 V+ (power)

## IC_PWM_PCA9685PW/Q900,118
designator U?, comment PCA9685PW/Q900,118
No Description Available; Manufacturer_Name: NXP; Copyright: Copyright (C) 2025 Ultra Librarian. All rights reserved.; Manufacturer_Part_Number: PCA9685PW/Q900,118; RefDes: RefDes; Type: Type
footprint TSSOP28_SOT361-1_NXP
pins: 1 A0 (in), 2 A1 (in), 3 A2 (in), 4 A3 (in), 5 A4 (in), 6 LED0 (out), 7 LED1 (out), 8 LED2 (out), 9 LED3 (out), 10 LED4 (out), 11 LED5 (out), 12 LED6 (out), 13 LED7 (out), 14 VSS (power), 15 LED8 (out), 16 LED9 (out), 17 LED10 (out), 18 LED11 (out), 19 LED12 (out), 20 LED13 (out), 21 LED14 (out), 22 LED15 (out), 23 nOE (in), 24 A5 (in), 25 EXTCLK (in), 26 SCL (in), 27 SDA (io), 28 VDD (power)

## IC_PWR_ADR4550ARZ-R7
designator U?, comment ADR4550ARZ-R7
Ultra-Low-Noise, High-Accuracy 5.0V Voltage Reference; Manufacturer_Name: Analog Devices Inc; Copyright: Copyright (C) 2025 Ultra Librarian. All rights reserved.; Manufacturer_Part_Number: ADR4550ARZ-R7; Datasheet: https://www.analog.com/media/en/technical-documentation/data-sheets/ADR4520_4525_4530_4533_4540_4550.pdf; RefDes: RefDes; Type: Type
footprint R_8_ADI
pins: 1 NIC, 2 VIN, 3 NIC, 4 GND (power), 5 NIC, 6 VOUT (out), 7 NIC, 8 DNC

## IC_PWR_MCP1501T-25ECHY
designator U?, comment MCP1501T-25E/CHY
No Description Available; Manufacturer_Name: Microchip; Copyright: Copyright (C) 2025 Ultra Librarian. All rights reserved.; Manufacturer_Part_Number: MCP1501T-25E/CHY; RefDes: RefDes; Type: Type
footprint SOT-23_OTOTY_MCH
pins: 1 OUT (out), 2 GND (power), 3 GND (power), 4 *SHDN (in), 5 GND (power), 6 VDD (power)

## IC_PWR_TPS74901RGWR
designator U?
3-A, low-VIN (0.8-V), adjustable ultra-low-dropout voltage regulator with power good & enable 20-VQFN -40 to 125; MF: Texas Instruments; MP: TPS74901RGWR; Price: None; Check_prices: https://www.snapeda.com/parts/TPS74901RGWR/Texas%20Instruments/view-part/1101342/?ref=eda; SnapEDA_Link: https://www.snapeda.com/parts/TPS74901RGWR/Texas%20Instruments/view-part/1101342/?ref=snap; Package: VQFN-20 Texas Instruments; Purchase-URL: https://pricing.snapeda.com/search/part/TPS74901RGWR/?ref=eda; Availability: Good; Value: *
footprint QFN65P500X500X100-21N
pins: 1 OUT, 2 NC, 3 NC, 4 NC, 5 IN (in), 6 IN (in), 7 IN (in), 8 IN (in), 9 PG (io), 10 BIAS (in), 11 EN (in), 12 GND (power), 13 NC, 14 NC, 15 SS (in), 16 FB (in), 17 NC, 18 OUT, 19 OUT, 20 OUT, 21 EPAD (power)

## IC_PWRSW_MIC2026-1YM
designator U?
Power Switch/Driver 1:2 N-Channel 1.25A 8-SOIC; MF: Microchip; MP: MIC2026-1YM; SnapEDA_Link: https://www.snapeda.com/parts/MIC2026-1YM/Microchip/view-part/?ref=snap; Package: SO-8 Microchip; Value: *; Check_prices: https://www.snapeda.com/parts/MIC2026-1YM/Microchip/view-part/?ref=eda
footprint SOIC127P599X173-8N
pins: 1 ENA (in), 2 ~{FLGA} (out), 3 ~{FLGB} (out), 4 ENB (in), 5 OUTB, 6 GND (power), 7 IN (in), 8 OUTA

## IC_RAM_AS3004204-0108X0PSAY
designator U?, comment AS3004204-0108X0PSAY
pins: 1 nCS, 2 SO/IO[1], 3 nWP/IO[2], 4 VSS, 5 SI/IO[0], 6 CLK, 7 IO[3], 8 VCC

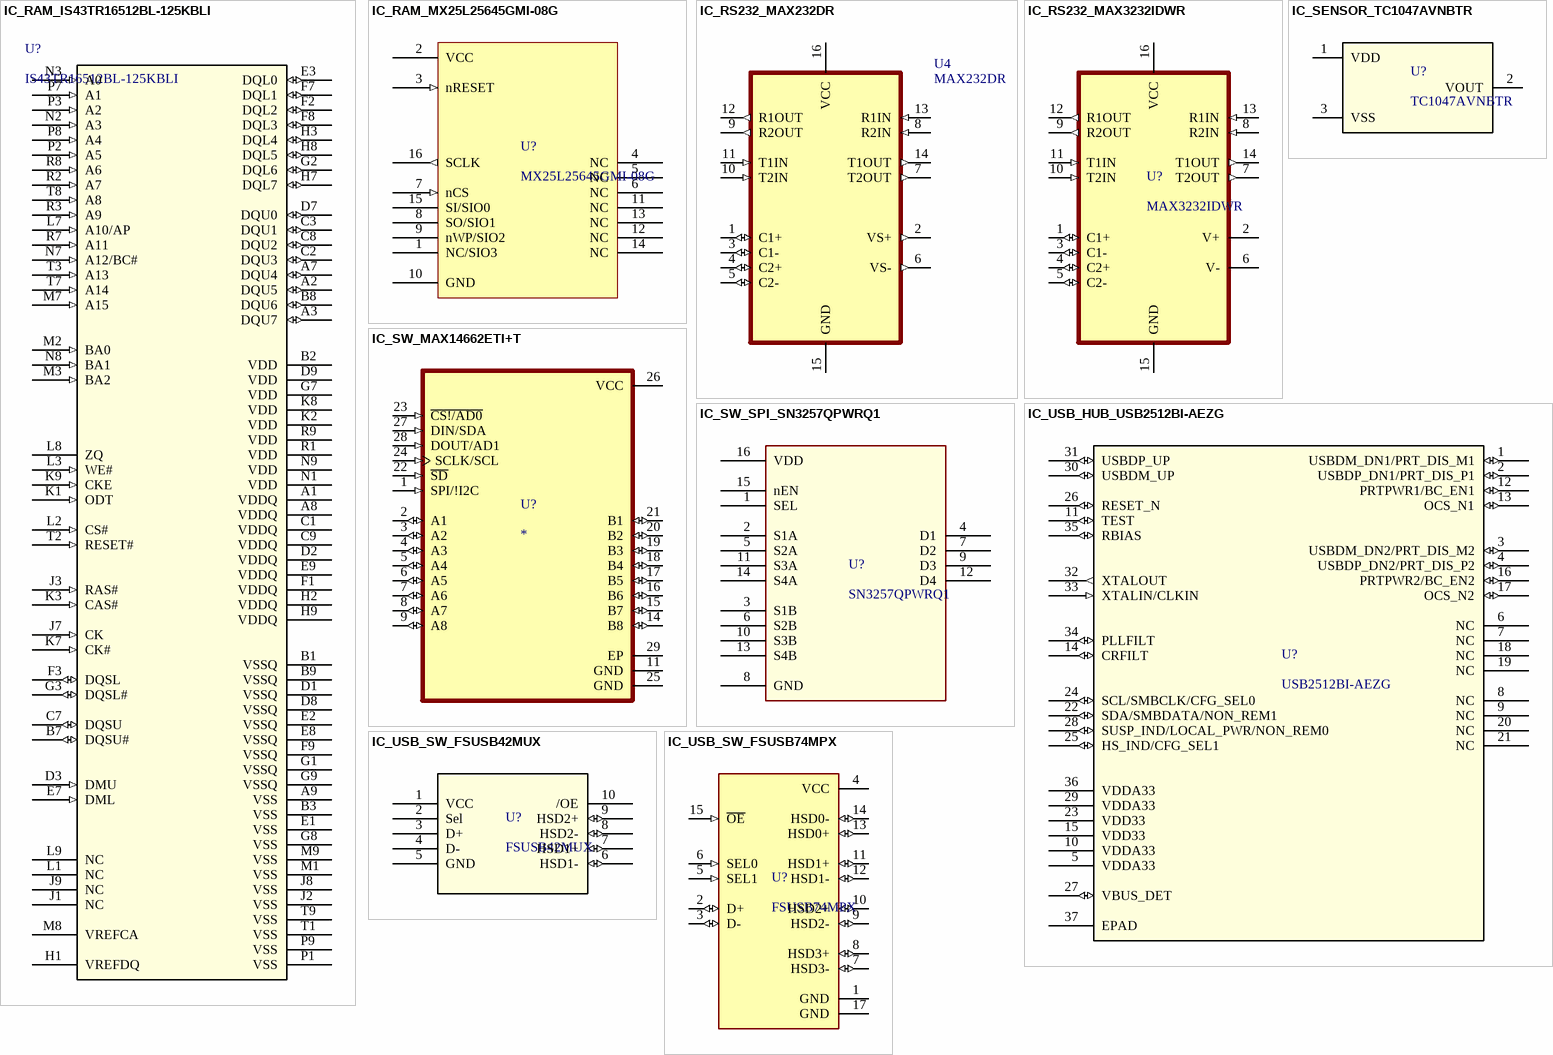
[diagram p3: symbols IC_RAM_IS43TR16512BL-125KBLI to IC_USB_SW_FSUSB74MPX]

## IC_RAM_IS43TR16512BL-125KBLI
designator U?, comment IS43TR16512BL-125KBLI
DDR3L; Manufacturer_Name: ISSI; Copyright: Copyright (C) 2025 Ultra Librarian. All rights reserved.; Manufacturer_Part_Number: IS43TR16512BL-125KBLI; RefDes: RefDes; Type: Type
footprint TWBGA96_ISI
pins: A1 VDDQ (power), A2 DQU5 (io), A3 DQU7 (io), A7 DQU4 (io), A8 VDDQ (power), A9 VSS (power), B1 VSSQ (power), B2 VDD (power), B3 VSS (power), B7 DQSU# (io), B8 DQU6 (io), B9 VSSQ (power), C1 VDDQ (power), C2 DQU3 (io), C3 DQU1 (io), C7 DQSU (io), C8 DQU2 (io), C9 VDDQ (power), D1 VSSQ (power), D2 VDDQ (power), D3 DMU (in), D7 DQU0 (io), D8 VSSQ (power), D9 VDD (power), E1 VSS (power), E2 VSSQ (power), E3 DQL0 (io), E7 DML (in), E8 VSSQ (power), E9 VDDQ (power), F1 VDDQ (power), F2 DQL2 (io), F3 DQSL (io), F7 DQL1 (io), F8 DQL3 (io), F9 VSSQ (power), G1 VSSQ (power), G2 DQL6 (io), G3 DQSL# (io), G7 VDD (power), G8 VSS (power), G9 VSSQ (power), H1 VREFDQ (power), H2 VDDQ (power), H3 DQL4 (io), H7 DQL7 (io), H8 DQL5 (io), H9 VDDQ (power), J1 NC, J2 VSS (power), J3 RAS# (in), J7 CK (in), J8 VSS (power), J9 NC, K1 ODT (in), K2 VDD (power), K3 CAS# (in), K7 CK# (in), K8 VDD (power), K9 CKE (in), L1 NC, L2 CS# (in), L3 WE# (in), L7 A10/AP (in), L8 ZQ (power), L9 NC, M1 VSS (power), M2 BA0 (in), M3 BA2 (in), M7 A15 (in), M8 VREFCA (power), M9 VSS (power), N1 VDD (power), N2 A3 (in), N3 A0 (in), N7 A12/BC# (in), N8 BA1 (in), N9 VDD (power), P1 VSS (power), P2 A5 (in), P3 A2 (in), P7 A1 (in), P8 A4 (in), P9 VSS (power), R1 VDD (power), R2 A7 (in), R3 A9 (in), R7 A11 (in), R8 A6 (in), R9 VDD (power), T1 VSS (power), T2 RESET# (in), T3 A13 (in), T7 A14 (in), T8 A8 (in), T9 VSS (power)

## IC_RAM_MX25L25645GMI-08G
designator U?, comment MX25L25645GMI-08G
FLASH - NOR Memory IC 256Mbit SPI 120 MHz 16-SOP
pins: 1 NC/SIO3, 2 VCC (power), 3 nRESET (in), 4 NC, 5 NC, 6 NC, 7 nCS (in), 8 SO/SIO1, 9 nWP/SIO2, 10 GND (power), 11 NC, 12 NC, 13 NC, 14 NC, 15 SI/SIO0, 16 SCLK (out)

## IC_RS232_MAX232DR
designator U4, comment MAX232DR
5-V dual channel 120kbps RS-232 line driver/receiver with +/-9V output & +/-2-kV ESD protection; MF: Texas Instruments; SnapEDA_Link: https://www.snapeda.com/parts/MAX232DR/Texas+Instruments/view-part/?ref=snap; Package: SOIC-16 Texas Instruments; Value: *; MP: MAX232DR; Check_prices: https://www.snapeda.com/parts/MAX232DR/Texas+Instruments/view-part/?ref=eda
footprint SOIC127P600X175-16N
pins: 1 C1+ (io), 2 VS+ (out), 3 C1- (io), 4 C2+ (io), 5 C2- (io), 6 VS- (out), 7 T2OUT (out), 8 R2IN (in), 9 R2OUT (out), 10 T2IN (in), 11 T1IN (in), 12 R1OUT (out), 13 R1IN (in), 14 T1OUT (out), 15 GND (power), 16 VCC (power)

## IC_RS232_MAX3232IDWR
designator U?, comment MAX3232IDWR
3.0V to 5.5V, Low-Power, Up to 1Mbps, True RS-232 Transceivers; MF: Analog Devices; MP: MAX3232CSE+T; SnapEDA_Link: https://www.snapeda.com/parts/MAX3232CSE+T/Analog+Devices/view-part/?ref=snap; Package: SOIC-16 Maxim Integrated; Value: *; Check_prices: https://www.snapeda.com/parts/MAX3232CSE+T/Analog+Devices/view-part/?ref=eda
footprint SOIC127P1032X265-16N
pins: 1 C1+ (io), 2 V+ (power), 3 C1- (io), 4 C2+ (io), 5 C2- (io), 6 V- (power), 7 T2OUT (out), 8 R2IN (in), 9 R2OUT (out), 10 T2IN (in), 11 T1IN (in), 12 R1OUT (out), 13 R1IN (in), 14 T1OUT (out), 15 GND (power), 16 VCC (power)

## IC_SENSOR_TC1047AVNBTR
designator U?, comment TC1047AVNBTR
Temperature Sensor Analog, Local -40°C ~ 125°C 10mV/°C SOT-23-3
footprint SOT95P240X120-3N
pins: 1 VDD, 2 VOUT, 3 VSS

## IC_SW_MAX14662ETI+T
designator U?
8 Circuit IC Switch 1:1 1Ohm 28-TQFN _4x4_; MF: Maxim Integrated; MP: MAX14662ETI+T; Package: TQFN-28 Maxim; Value: *; Price: None; SnapEDA_Link: https://www.snapeda.com/parts/MAX14662ETI%2BT/Maxim%20Integrated/view-part/546683/?ref=snap; Availability: Unavailable
footprint QFN40P400X400X80-29N
pins: 1 SPI/!I2C (in), 2 A1 (io), 3 A2 (io), 4 A3 (io), 5 A4 (io), 6 A5 (io), 7 A6 (io), 8 A7 (io), 9 A8 (io), 11 GND (power), 14 B8 (io), 15 B7 (io), 16 B6 (io), 17 B5 (io), 18 B4 (io), 19 B3 (io), 20 B2 (io), 21 B1 (io), 22 ~{SD} (in), 23 ~{CS!/AD0} (in), 24 SCLK/SCL (in), 25 GND (power), 26 VCC (power), 27 DIN/SDA (in), 28 DOUT/AD1 (in), 29 EP (power)

## IC_SW_SPI_SN3257QPWRQ1
designator U?, comment SN3257QPWRQ1
Automotive 5-V, 2:1 (SPDT), 4-channel switch with 1.8-V logic and powered-off protection 16-TSSOP -40 to 125; Manufacturer_Name: Texas Instruments; Copyright: Copyright (C) 2025 Ultra Librarian. All rights reserved.; Manufacturer_Part_Number: SN3257QPWRQ1; Datasheet: https://www.ti.com/lit/gpn/sn3257-q1; RefDes: RefDes; Type: Type
footprint SOIC_PRQ1_TEX
pins: 1 SEL, 2 S1A, 3 S1B, 4 D1, 5 S2A, 6 S2B, 7 D2, 8 GND, 9 D3, 10 S3B, 11 S3A, 12 D4, 13 S4B, 14 S4A, 15 nEN, 16 VDD

## IC_USB_HUB_USB2512BI-AEZG
designator U?, comment USB2512BI-AEZG
Description; Manufacturer_Name: Microchip; Copyright: Copyright (C) 2026 Ultra Librarian. All rights reserved.; Manufacturer_Part_Number: USB2512BI-AEZG; RefDes: RefDes; Type: Type
footprint QFN36_6X6MC_MCH
pins: 1 USBDM_DN1/PRT_DIS_M1 (io), 2 USBDP_DN1/PRT_DIS_P1 (io), 3 USBDM_DN2/PRT_DIS_M2 (io), 4 USBDP_DN2/PRT_DIS_P2 (io), 5 VDDA33 (power), 6 NC, 7 NC, 8 NC, 9 NC, 10 VDDA33 (power), 11 TEST (io), 12 PRTPWR1/BC_EN1 (io), 13 OCS_N1 (io), 14 CRFILT (io), 15 VDD33 (power), 16 PRTPWR2/BC_EN2 (io), 17 OCS_N2 (io), 18 NC, 19 NC, 20 NC, 21 NC, 22 SDA/SMBDATA/NON_REM1 (io), 23 VDD33 (power), 24 SCL/SMBCLK/CFG_SEL0 (io), 25 HS_IND/CFG_SEL1 (io), 26 RESET_N (io), 27 VBUS_DET (io), 28 SUSP_IND/LOCAL_PWR/NON_REM0 (io), 29 VDDA33 (power), 30 USBDM_UP (io), 31 USBDP_UP (io), 32 XTALOUT (out), 33 XTALIN/CLKIN (in), 34 PLLFILT (io), 35 RBIAS (io), 36 VDDA33 (power), 37 EPAD

## IC_USB_SW_FSUSB42MUX
designator U?, comment FSUSB42MUX
Description; Manufacturer_Name: onsemi; Copyright: Copyright (C) 2025 Ultra Librarian. All rights reserved.; Manufacturer_Part_Number: FSUSB42MUX; RefDes: RefDes; Type: Type
footprint MSOP10_3X3_ONS
pins: 1 VCC (power), 2 Sel, 3 D+, 4 D-, 5 GND (power), 6 HSD1- (io), 7 HSD1+ (io), 8 HSD2- (io), 9 HSD2+ (io), 10 /OE

## IC_USB_SW_FSUSB74MPX
designator U?, comment FSUSB74MPX
USB Switch IC 1 Channel 16-MLP (3x3); MF: ON Semiconductor; SnapEDA_Link: https://www.snapeda.com/parts/FSUSB74MPX/Onsemi/view-part/?ref=snap; Package: WQFN-16 ON Semiconductor; Value: *; MP: FSUSB74MPX; Check_prices: https://www.snapeda.com/parts/FSUSB74MPX/Onsemi/view-part/?ref=eda
footprint QFN50P300X300X80-17N
pins: 1 GND (power), 2 D+ (io), 3 D- (io), 4 VCC (power), 5 SEL1 (in), 6 SEL0 (in), 7 HSD3- (io), 8 HSD3+ (io), 9 HSD2- (io), 10 HSD2+ (io), 11 HSD1+ (io), 12 HSD1- (io), 13 HSD0+ (io), 14 HSD0- (io), 15 ~{OE} (in), 17 GND (power)

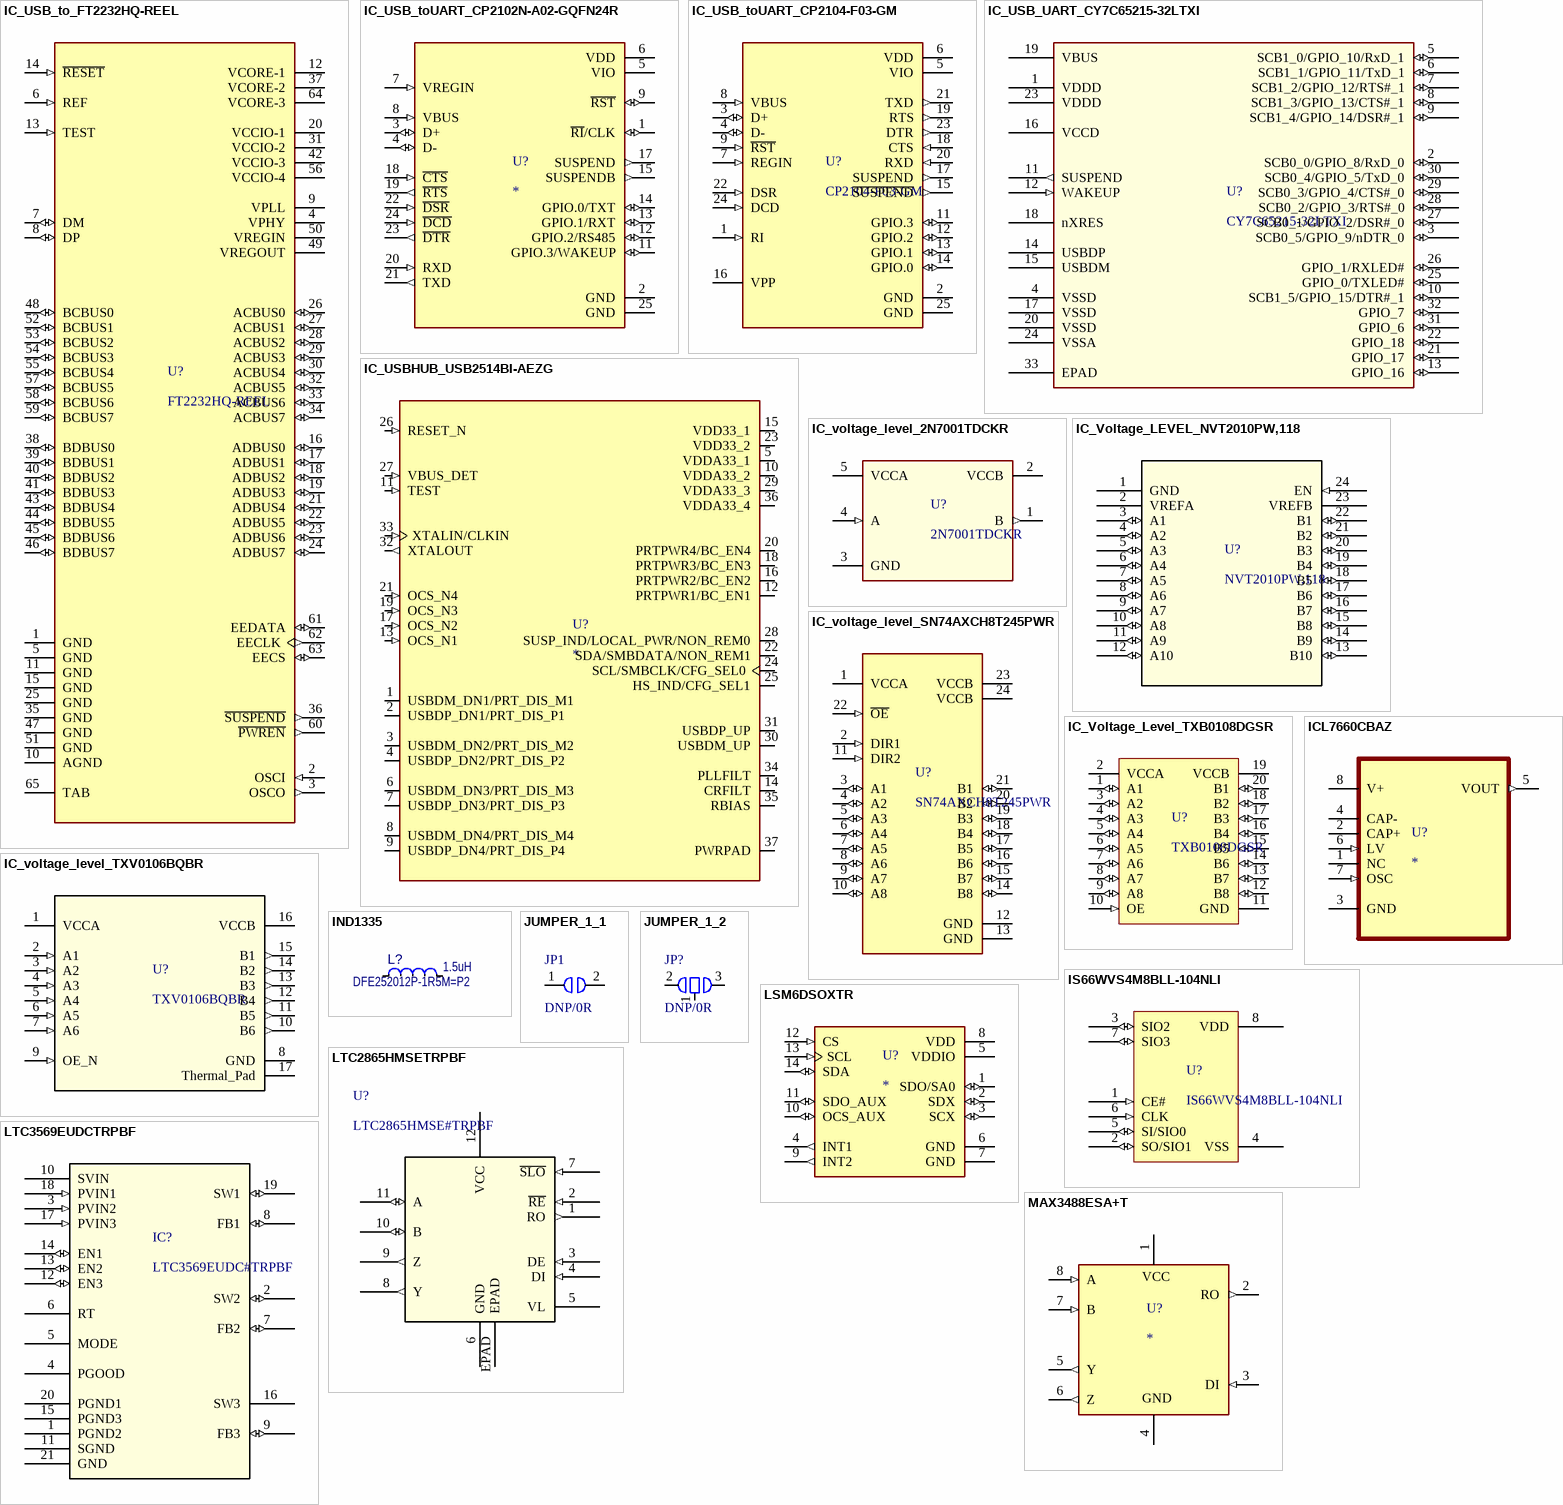
[diagram p4: symbols IC_USB_to_FT2232HQ-REEL to MAX3488ESA+T]

## IC_USB_to_FT2232HQ-REEL
designator U?, comment FT2232HQ-REEL
USB Hi-Speed to Dual Channel Serial UART/FIFO/JTAG/SPI/I2C IC - QFN-64; MF: {'manufacturer': u'FTDI, Future Technology Devices International Ltd'}; MP: FT2232HL-REEL; Package: None; Price: None; Value: *; Availability: Unavailable
footprint QFN50P900X900X85-65N
pins: 1 GND (power), 2 OSCI (in), 3 OSCO (out), 4 VPHY (power), 5 GND (power), 6 REF (in), 7 DM (io), 8 DP (io), 9 VPLL (power), 10 AGND (power), 11 GND (power), 12 VCORE-1 (power), 13 TEST (in), 14 ~{RESET} (in), 15 GND (power), 16 ADBUS0 (io), 17 ADBUS1 (io), 18 ADBUS2 (io), 19 ADBUS3 (io), 20 VCCIO-1 (power), 21 ADBUS4 (io), 22 ADBUS5 (io), 23 ADBUS6 (io), 24 ADBUS7 (io), 25 GND (power), 26 ACBUS0 (io), 27 ACBUS1 (io), 28 ACBUS2 (io), 29 ACBUS3 (io), 30 ACBUS4 (io), 31 VCCIO-2 (power), 32 ACBUS5 (io), 33 ACBUS6 (io), 34 ACBUS7 (io), 35 GND (power), 36 ~{SUSPEND} (out), 37 VCORE-2 (power), 38 BDBUS0 (io), 39 BDBUS1 (io), 40 BDBUS2 (io), 41 BDBUS3 (io), 42 VCCIO-3 (power), 43 BDBUS4 (io), 44 BDBUS5 (io), 45 BDBUS6 (io), 46 BDBUS7 (io), 47 GND (power), 48 BCBUS0 (io), 49 VREGOUT (power), 50 VREGIN (power), 51 GND (power), 52 BCBUS1 (io), 53 BCBUS2 (io), 54 BCBUS3 (io), 55 BCBUS4 (io), 56 VCCIO-4 (power), 57 BCBUS5 (io), 58 BCBUS6 (io), 59 BCBUS7 (io), 60 ~{PWREN} (out), 61 EEDATA (io), 62 EECLK (out), 63 EECS (io), 64 VCORE-3 (power), 65 TAB (power)

## IC_USB_toUART_CP2102N-A02-GQFN24R
designator U?
MP: CP2102N-A02-GQFN24R; Value: *; Package: None; Availability: Unavailable; Price: None
footprint QFN50P400X400X80-25N
pins: 1 ~{RI}/CLK (io), 2 GND (power), 3 D+ (io), 4 D- (io), 5 VIO (power), 6 VDD (power), 7 VREGIN (in), 8 VBUS (in), 9 ~{RST} (io), 11 GPIO.3/WAKEUP (io), 12 GPIO.2/RS485 (io), 13 GPIO.1/RXT (io), 14 GPIO.0/TXT (io), 15 SUSPENDB (out), 17 SUSPEND (out), 18 ~{CTS} (in), 19 ~{RTS} (out), 20 RXD (in), 21 TXD (out), 22 ~{DSR} (in), 23 ~{DTR} (out), 24 ~{DCD} (in), 25 GND (power)

## IC_USB_toUART_CP2104-F03-GM
designator U?, comment CP2104-F03-GM
USB Bridge, USB to UART USB 2.0 UART Interface 24-QFN (4x4); MF: Silicon Labs; SnapEDA_Link: https://www.snapeda.com/parts/CP2104-F03-GM/Silicon+Labs/view-part/?ref=snap; Package: QFN-24 Silicon Labs; Value: *; MP: CP2104-F03-GM; Check_prices: https://www.snapeda.com/parts/CP2104-F03-GM/Silicon+Labs/view-part/?ref=eda
footprint QFN50P400X400X80-25N
pins: 1 RI (in), 2 GND (power), 3 D+ (io), 4 D- (io), 5 VIO (power), 6 VDD (power), 7 REGIN (in), 8 VBUS (in), 9 ~{RST} (in), 11 GPIO.3 (io), 12 GPIO.2 (io), 13 GPIO.1 (io), 14 GPIO.0 (io), 15 ~{SUSPEND} (out), 16 VPP, 17 SUSPEND (out), 18 CTS (in), 19 RTS (out), 20 RXD (in), 21 TXD (out), 22 DSR (in), 23 DTR (out), 24 DCD (in), 25 GND (power)

## IC_USB_UART_CY7C65215-32LTXI
designator U?, comment CY7C65215-32LTXI
Description; Manufacturer_Name: Infineon; Copyright: Copyright (C) 2025 Ultra Librarian. All rights reserved.; Manufacturer_Part_Number: CY7C65215-32LTXI; RefDes: RefDes; Type: Type
footprint PG-VQFN-32-803
pins: 1 VDDD (power), 2 SCB0_0/GPIO_8/RxD_0 (io), 3 SCB0_5/GPIO_9/nDTR_0 (io), 4 VSSD (power), 5 SCB1_0/GPIO_10/RxD_1 (io), 6 SCB1_1/GPIO_11/TxD_1 (io), 7 SCB1_2/GPIO_12/RTS#_1 (io), 8 SCB1_3/GPIO_13/CTS#_1 (io), 9 SCB1_4/GPIO_14/DSR#_1 (io), 10 SCB1_5/GPIO_15/DTR#_1 (io), 11 SUSPEND (out), 12 WAKEUP (in), 13 GPIO_16 (io), 14 USBDP, 15 USBDM, 16 VCCD (power), 17 VSSD (power), 18 nXRES, 19 VBUS (power), 20 VSSD (power), 21 GPIO_17 (io), 22 GPIO_18 (io), 23 VDDD (power), 24 VSSA (power), 25 GPIO_0/TXLED# (io), 26 GPIO_1/RXLED# (io), 27 SCB0_1/GPIO_2/DSR#_0 (io), 28 SCB0_2/GPIO_3/RTS#_0 (io), 29 SCB0_3/GPIO_4/CTS#_0 (io), 30 SCB0_4/GPIO_5/TxD_0 (io), 31 GPIO_6 (io), 32 GPIO_7 (io), 33 EPAD (power)

## IC_USBHUB_USB2514BI-AEZG
designator U?
USB Hub Controller USB 2.0 USB Interface 36-QFN (6x6); MF: Microchip; MP: USB2514BI-AEZG-TR; SnapEDA_Link: https://www.snapeda.com/parts/USB2514BI-AEZG-TR/Microchip/view-part/?ref=snap; Package: VQFN-36 Microchip; Value: *; Check_prices: https://www.snapeda.com/parts/USB2514BI-AEZG-TR/Microchip/view-part/?ref=eda
footprint QFN50P600X600X100-37N
pins: 1 USBDM_DN1/PRT_DIS_M1 (io), 2 USBDP_DN1/PRT_DIS_P1 (io), 3 USBDM_DN2/PRT_DIS_M2 (io), 4 USBDP_DN2/PRT_DIS_P2 (io), 5 VDDA33_1 (power), 6 USBDM_DN3/PRT_DIS_M3 (io), 7 USBDP_DN3/PRT_DIS_P3 (io), 8 USBDM_DN4/PRT_DIS_M4 (io), 9 USBDP_DN4/PRT_DIS_P4 (io), 10 VDDA33_2 (power), 11 TEST (in), 12 PRTPWR1/BC_EN1 (io), 13 OCS_N1 (in), 14 CRFILT, 15 VDD33_1 (power), 16 PRTPWR2/BC_EN2 (io), 17 OCS_N2 (in), 18 PRTPWR3/BC_EN3 (io), 19 OCS_N3 (in), 20 PRTPWR4/BC_EN4 (io), 21 OCS_N4 (in), 22 SDA/SMBDATA/NON_REM1 (io), 23 VDD33_2 (power), 24 SCL/SMBCLK/CFG_SEL0 (io), 25 HS_IND/CFG_SEL1 (io), 26 RESET_N (in), 27 VBUS_DET (in), 28 SUSP_IND/LOCAL_PWR/NON_REM0 (io), 29 VDDA33_3 (power), 30 USBDM_UP (io), 31 USBDP_UP (io), 32 XTALOUT (out), 33 XTALIN/CLKIN (in), 34 PLLFILT, 35 RBIAS, 36 VDDA33_4 (power), 37 PWRPAD (power)

## IC_voltage_level_2N7001TDCKR
designator U?, comment 2N7001TDCKR
1-bit dual-supply buffered voltage signal converter; MF: Texas Instruments; SnapEDA_Link: https://www.snapeda.com/parts/2N7001TDCKR/Texas+Instruments/view-part/?ref=snap; Package: SC70-5 Texas Instruments; Value: *; MP: 2N7001TDCKR; Check_prices: https://www.snapeda.com/parts/2N7001TDCKR/Texas+Instruments/view-part/?ref=eda
footprint SOT65P210X110-5N
pins: 1 B (out), 2 VCCB (power), 3 GND (power), 4 A (in), 5 VCCA (power)

## IC_Voltage_LEVEL_NVT2010PW,118
designator U?, comment NVT2010PW,118
No Description Available; Manufacturer_Name: NXP; Copyright: Copyright (C) 2025 Ultra Librarian. All rights reserved.; Manufacturer_Part_Number: NVT2010PW,118; RefDes: RefDes; Type: Type
footprint TSSOP24_SOT355-1_NXP
pins: 1 GND (power), 2 VREFA (power), 3 A1 (io), 4 A2 (io), 5 A3 (io), 6 A4 (io), 7 A5 (io), 8 A6 (io), 9 A7 (io), 10 A8 (io), 11 A9 (io), 12 A10 (io), 13 B10 (io), 14 B9 (io), 15 B8 (io), 16 B7 (io), 17 B6 (io), 18 B5 (io), 19 B4 (io), 20 B3 (io), 21 B2 (io), 22 B1 (io), 23 VREFB (power), 24 EN (in)

## IC_voltage_level_SN74AXCH8T245PWR
designator U?, comment SN74AXCH8T245PWR
8-Bit Dual-Supply Bus Transceiver; MF: Texas Instruments; MP: SN74AXCH8T245PWR; Value: *; Check_prices: https://www.snapeda.com/parts/SN74AXCH8T245PWR/Texas+Instruments/view-part/?ref=eda; SnapEDA_Link: https://www.snapeda.com/parts/SN74AXCH8T245PWR/Texas+Instruments/view-part/?ref=snap; Price: None; Availability: In Stock; Purchase-URL: https://pricing.snapeda.com/search/part/SN74AXCH8T245PWR/?ref=eda; Package: TSSOP-24 Texas Instruments
footprint SOP65P640X120-24N
pins: 1 VCCA (power), 2 DIR1 (in), 3 A1 (io), 4 A2 (io), 5 A3 (io), 6 A4 (io), 7 A5 (io), 8 A6 (io), 9 A7 (io), 10 A8 (io), 11 DIR2 (in), 12 GND (power), 13 GND (power), 14 B8 (io), 15 B7 (io), 16 B6 (io), 17 B5 (io), 18 B4 (io), 19 B3 (io), 20 B2 (io), 21 B1 (io), 22 ~{OE} (in), 23 VCCB (power), 24 VCCB (power)

## IC_Voltage_Level_TXB0108DGSR
designator U?, comment TXB0108DGSR
Voltage Level Translator Bidirectional 1 Circuit 8 Channel 100Mbps 20-VSSOP
footprint SOP50P510X110X300W-20
pins: 1 A1 (io), 2 VCCA (power), 3 A2 (io), 4 A3 (io), 5 A4 (io), 6 A5 (io), 7 A6 (io), 8 A7 (io), 9 A8 (io), 10 OE (in), 11 GND, 12 B8 (io), 13 B7 (io), 14 B6 (io), 15 B5 (io), 16 B4 (io), 17 B3 (io), 18 B2 (io), 19 VCCB (power), 20 B1 (io)

## IC_voltage_level_TXV0106BQBR
designator U?, comment TXV0106BQBR
Dual-supply fixed-direction six-channel voltage translator 16-WQFN -40 to 125; Manufacturer_Name: Texas Instruments; TYPE: TYPE; RefDes: RefDes; Copyright: Copyright (C) 2025 Ultra Librarian. All rights reserved.; Manufacturer_Part_Number: TXV0106BQBR; Datasheet: https://www.ti.com/lit/gpn/txv0106
footprint BQB0016A-MFG
pins: 1 VCCA (power), 2 A1 (in), 3 A2 (in), 4 A3 (in), 5 A4 (in), 6 A5 (in), 7 A6 (in), 8 GND (power), 9 OE_N (in), 10 B6 (out), 11 B5 (out), 12 B4 (out), 13 B3 (out), 14 B2 (out), 15 B1 (out), 16 VCCB (power), 17 Thermal_Pad

## ICL7660CBAZ
designator U?
Inverting RoHS Compliant Adjustable DUAL Switching Regulator IC 70C 10kHz 165muA 4mm
footprint SOIC127P600X175-8N
pins: 1 NC, 2 CAP+, 3 GND, 4 CAP-, 5 VOUT (out), 6 LV (in), 7 OSC (in), 8 V+ (power)

## IND1335
designator L?, comment value 1.5uH  Manufacturer Part Number 1: DFE252012P-1R5M=P2  (hidden comment: Inductor)
Manufacturer 1: Murata Electronics North America; MCHP-ID: IND1335; Description_: INDUCTOR 1.5uH 3.5A 20% SMD 1008; Dev Tools Status: Design; Owner: Razvan Cristescu; DCR: 0.06R; RMS Current: 3.5A; Test Frequency: 1MHz; Populated: YES; Revision: A; Symbol: Inductor; Status: MCL Design; ComponentLink1URL: https://chn-vm-apps.microchip.com/mchprepo/parts/Datasheets/m_dfe252012p.pdf; ComponentLink1Description: SVN Datasheet; ComponentLink2URL: C:\ALTIUM_WORK\00001_MCHP-CDB\Datasheets\m_dfe252012p.pdf; ComponentLink2Description: Local Datasheet; ComponentLink3URL: C:\ALTIUM_WORK\00001_MCHP-CDB\Library\LibraryRefs\Inductor.SchLib; ComponentLink3Description: Open Symbol; ComponentLink4URL: C:\ALTIUM_WORK\00001_MCHP-CDB\Library\Footprints\IND_C_1008.PcbLib; ComponentLink4Description: Open Footprint; ComponentLink5Description: Open Footprint 2; ComponentLink6Description: Open Footprint 3; ComponentLink7Description: Open Footprint 4; Package: 1008; Type: Inductor; Category: Inductor; Supplier 1: Digi-Key; Supplier Part Number 1: 490-10648-6-ND; Quantity Override: 1
footprint IND_C_1008
pins: 1 S, 2 F
2 alternate drawings of the same symbol

## IS66WVS4M8BLL-104NLI
designator U?
No Description Available; Manufacturer_Name: ISSI; Type: Memory; Copyright: Copyright (C) 2025 Ultra Librarian. All rights reserved.; Manufacturer_Part_Number: IS66WVS4M8BLL-104NLI; RefDes: RefDes
footprint SOIC8_150MIL_N_ISI
pins: 1 CE# (in), 2 SO/SIO1 (io), 3 SIO2 (io), 4 VSS (power), 5 SI/SIO0 (io), 6 CLK (in), 7 SIO3 (io), 8 VDD (power)

## JUMPER_1_1
designator JP1, comment DNP/0R
footprint JUMPER2
footprint JUMPER-EXP-V110
footprint JUMPER-EXP-V110
footprint JUMPER
footprint JUMPER
footprint RES_C_1608X60 (Chip Resistor, 2-Leads, Body 1.63x0.83mm, IPC High Density)
pins: 1, 2

## JUMPER_1_2
designator JP?, comment DNP/0R
footprint JUMPER2
footprint JUMPER-EXP-V110
footprint JUMPER-EXP-V110
footprint JUMPER
footprint JUMPER
footprint JUMPER_1-2_1608X60 (Chip Resistor, 2-Leads, Body 1.63x0.83mm, IPC High Density)
pins: 1, 2, 3

## LSM6DSOXTR
designator U?
Accelerometer, Gyroscope, 6 Axis Sensor I2C, SPI Output; MF: STMicroelectronics; MP: LSM6DSOXTR; SnapEDA_Link: https://www.snapeda.com/parts/LSM6DSOXTR/STMicroelectronics/view-part/?ref=snap; Package: VFLGA-14 STMicroelectronics; Value: *; Check_prices: https://www.snapeda.com/parts/LSM6DSOXTR/STMicroelectronics/view-part/?ref=eda
footprint PQFN50P250X300X86-14N
pins: 1 SDO/SA0 (io), 2 SDX (io), 3 SCX (io), 4 INT1 (out), 5 VDDIO (power), 6 GND (power), 7 GND (power), 8 VDD (power), 9 INT2 (out), 10 OCS_AUX (io), 11 SDO_AUX (io), 12 CS (in), 13 SCL (in), 14 SDA (io)

## LTC2865HMSETRPBF
designator U?, comment LTC2865HMSE#TRPBF
Â±60V Fault Protected 3V to 5.5V RS485/RS422 Transceivers; Manufacturer_Name: Analog Devices Inc; Copyright: Copyright (C) 2025 Ultra Librarian. All rights reserved.; Manufacturer_Part_Number: LTC2865HMSE#TRPBF; RefDes: RefDes; Type: Type
footprint MSOP-12_MSE_LIT
pins: 1 RO (out), 2 ~{RE} (in), 3 DE (in), 4 DI (in), 5 VL (power), 6 GND (power), 7 ~{SLO} (in), 8 Y (out), 9 Z (out), 10 B (io), 11 A (io), 12 VCC (power), EPAD

## LTC3569EUDCTRPBF
designator IC?, comment LTC3569EUDC#TRPBF
Triple Buck Regulator with 1.2A and Two 600mA Outputs and Individual Programmable References; Manufacturer_Name: Analog Devices Inc; Copyright: Copyright (C) 2025 Ultra Librarian. All rights reserved.; Manufacturer_Part_Number: LTC3569EUDC#TRPBF; RefDes: RefDes; Type: Type
footprint QFN20_UDC_3X4_ADI
pins: 1 PGND2 (power), 2 SW2 (io), 3 PVIN2 (in), 4 PGOOD (power), 5 MODE, 6 RT, 7 FB2 (io), 8 FB1 (io), 9 FB3 (io), 10 SVIN, 11 SGND (power), 12 EN3 (io), 13 EN2 (io), 14 EN1 (io), 15 PGND3 (power), 16 SW3, 17 PVIN3 (in), 18 PVIN1 (in), 19 SW1 (io), 20 PGND1 (power), 21 GND (power)

## MAX3488ESA+T
designator U?
1/1 Transceiver Full RS422, RS485 8-SOIC; MF: Analog Devices Inc./Maxim Integrated; MP: MAX3488ESA+T; SnapEDA_Link: https://www.snapeda.com/parts/MAX3488ESA+T/Analog+Devices/view-part/?ref=snap; Package: SOIC-8 Maxim; Value: *; Check_prices: https://www.snapeda.com/parts/MAX3488ESA+T/Analog+Devices/view-part/?ref=eda
footprint SOIC127P600X175-8N
pins: 1 VCC (power), 2 RO (out), 3 DI (in), 4 GND (power), 5 Y (out), 6 Z (out), 7 B (in), 8 A (in)

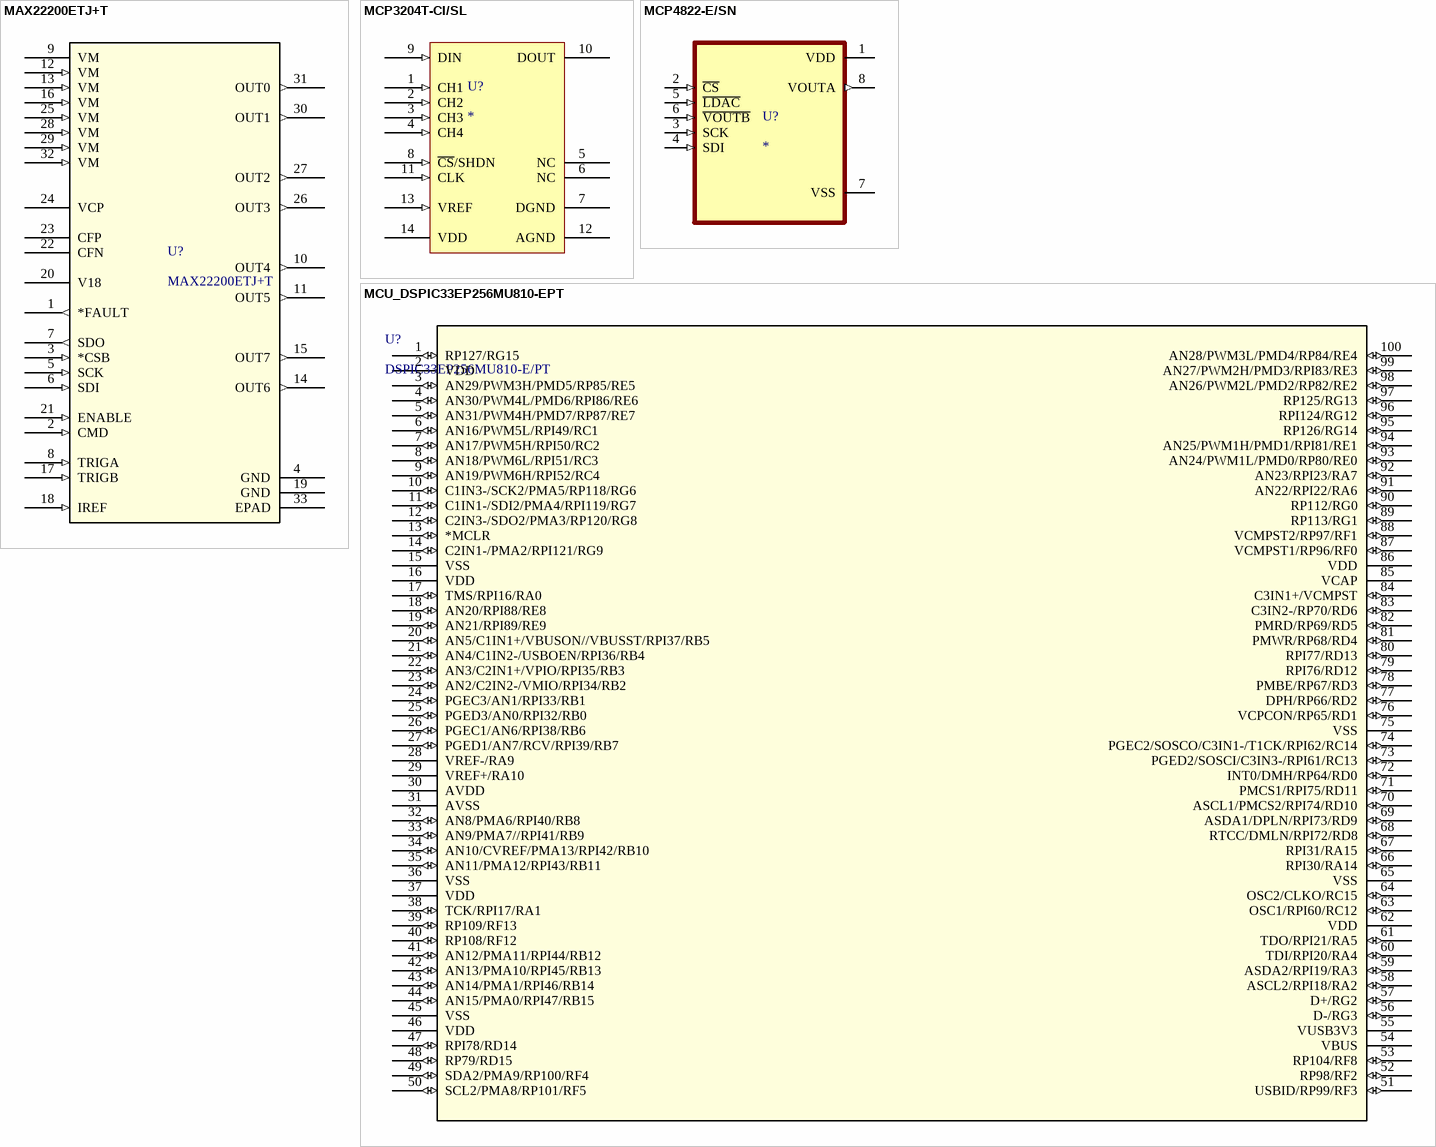
[diagram p5: symbols MAX22200ETJ+T to MCU_DSPIC33EP256MU810-EPT]

## MAX22200ETJ+T
designator U?
36V, 1A Octal Integrated Serial-Controlled Solenoid and Motor Driver; Manufacturer_Name: Analog Devices Inc; Copyright: Copyright (C) 2026 Ultra Librarian. All rights reserved.; Manufacturer_Part_Number: MAX22200ETJ+T; RefDes: RefDes; Type: Type
footprint 21-0140AK_T3255_8C_MXM
pins: 1 *FAULT (out), 2 CMD (in), 3 *CSB (in), 4 GND (power), 5 SCK (in), 6 SDI (in), 7 SDO (out), 8 TRIGA (in), 9 VM (power), 10 OUT4 (out), 11 OUT5 (out), 12 VM (in), 13 VM (in), 14 OUT6 (out), 15 OUT7 (out), 16 VM (in), 17 TRIGB (in), 18 IREF (in), 19 GND (power), 20 V18 (power), 21 ENABLE (in), 22 CFN (power), 23 CFP (power), 24 VCP (power), 25 VM (in), 26 OUT3 (out), 27 OUT2 (out), 28 VM (in), 29 VM (in), 30 OUT1 (out), 31 OUT0 (out), 32 VM (in), 33 EPAD (power)